# Altium integrated library Altium Database Library V2.IntLib: 722 symbols (part 27 of 35)

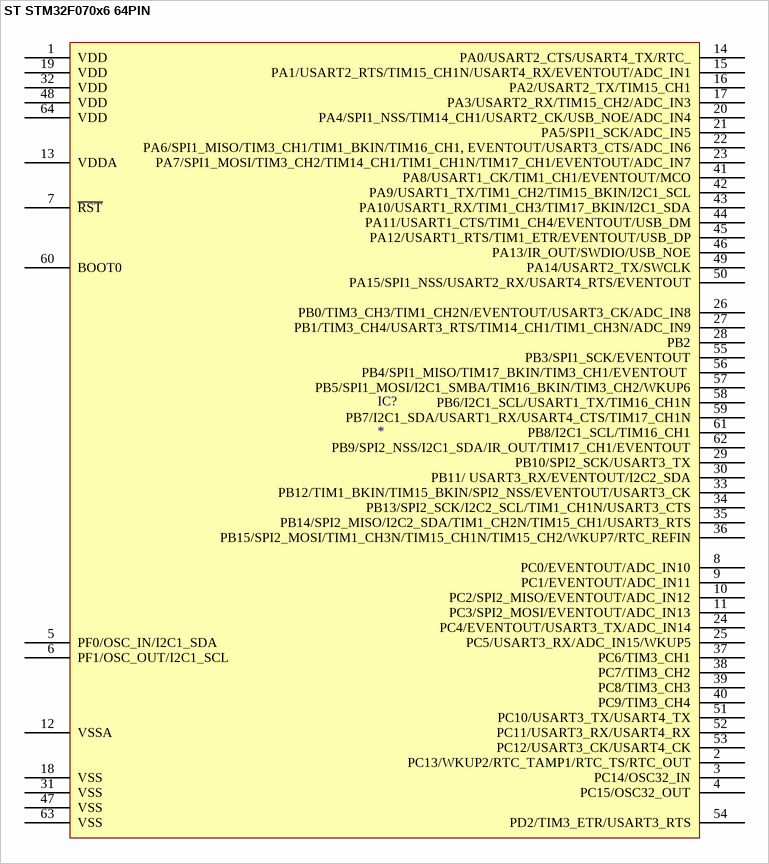
[diagram p526: symbol ST STM32F070x6 64PIN]

## ST STM32F070x6 64PIN
designator IC?
pins: 1 VDD, 2 PC13/WKUP2/RTC_TAMP1/RTC_TS/RTC_OUT, 3 PC14/OSC32_IN, 4 PC15/OSC32_OUT, 5 PF0/OSC_IN/I2C1_SDA, 6 PF1/OSC_OUT/I2C1_SCL, 7 ~{RST}, 8 PC0/EVENTOUT/ADC_IN10, 9 PC1/EVENTOUT/ADC_IN11, 10 PC2/SPI2_MISO/EVENTOUT/ADC_IN12, 11 PC3/SPI2_MOSI/EVENTOUT/ADC_IN13, 12 VSSA, 13 VDDA, 14 PA0/USART2_CTS/USART4_TX/RTC_, 15 PA1/USART2_RTS/TIM15_CH1N/USART4_RX/EVENTOUT/ADC_IN1, 16 PA2/USART2_TX/TIM15_CH1, 17 PA3/USART2_RX/TIM15_CH2/ADC_IN3, 18 VSS, 19 VDD, 20 PA4/SPI1_NSS/TIM14_CH1/USART2_CK/USB_NOE/ADC_IN4, 21 PA5/SPI1_SCK/ADC_IN5, 22 PA6/SPI1_MISO/TIM3_CH1/TIM1_BKIN/TIM16_CH1, EVENTOUT/USART3_CTS/ADC_IN6, 23 PA7/SPI1_MOSI/TIM3_CH2/TIM14_CH1/TIM1_CH1N/TIM17_CH1/EVENTOUT/ADC_IN7, 24 PC4/EVENTOUT/USART3_TX/ADC_IN14, 25 PC5/USART3_RX/ADC_IN15/WKUP5, 26 PB0/TIM3_CH3/TIM1_CH2N/EVENTOUT/USART3_CK/ADC_IN8, 27 PB1/TIM3_CH4/USART3_RTS/TIM14_CH1/TIM1_CH3N/ADC_IN9, 28 PB2, 29 PB10/SPI2_SCK/USART3_TX, 30 PB11/ USART3_RX/EVENTOUT/I2C2_SDA, 31 VSS, 32 VDD, 33 PB12/TIM1_BKIN/TIM15_BKIN/SPI2_NSS/EVENTOUT/USART3_CK, 34 PB13/SPI2_SCK/I2C2_SCL/TIM1_CH1N/USART3_CTS, 35 PB14/SPI2_MISO/I2C2_SDA/TIM1_CH2N/TIM15_CH1/USART3_RTS, 36 PB15/SPI2_MOSI/TIM1_CH3N/TIM15_CH1N/TIM15_CH2/WKUP7/RTC_REFIN, 37 PC6/TIM3_CH1, 38 PC7/TIM3_CH2, 39 PC8/TIM3_CH3, 40 PC9/TIM3_CH4, 41 PA8/USART1_CK/TIM1_CH1/EVENTOUT/MCO, 42 PA9/USART1_TX/TIM1_CH2/TIM15_BKIN/I2C1_SCL, 43 PA10/USART1_RX/TIM1_CH3/TIM17_BKIN/I2C1_SDA, 44 PA11/USART1_CTS/TIM1_CH4/EVENTOUT/USB_DM, 45 PA12/USART1_RTS/TIM1_ETR/EVENTOUT/USB_DP, 46 PA13/IR_OUT/SWDIO/USB_NOE, 47 VSS, 48 VDD, 49 PA14/USART2_TX/SWCLK, 50 PA15/SPI1_NSS/USART2_RX/USART4_RTS/EVENTOUT, 51 PC10/USART3_TX/USART4_TX, 52 PC11/USART3_RX/USART4_RX, 53 PC12/USART3_CK/USART4_CK, 54 PD2/TIM3_ETR/USART3_RTS, 55 PB3/SPI1_SCK/EVENTOUT, 56 PB4/SPI1_MISO/TIM17_BKIN/TIM3_CH1/EVENTOUT , 57 PB5/SPI1_MOSI/I2C1_SMBA/TIM16_BKIN/TIM3_CH2/WKUP6, 58 PB6/I2C1_SCL/USART1_TX/TIM16_CH1N, 59 PB7/I2C1_SDA/USART1_RX/USART4_CTS/TIM17_CH1N, 60 BOOT0, 61 PB8/I2C1_SCL/TIM16_CH1, 62 PB9/SPI2_NSS/I2C1_SDA/IR_OUT/TIM17_CH1/EVENTOUT, 63 VSS, 64 VDD


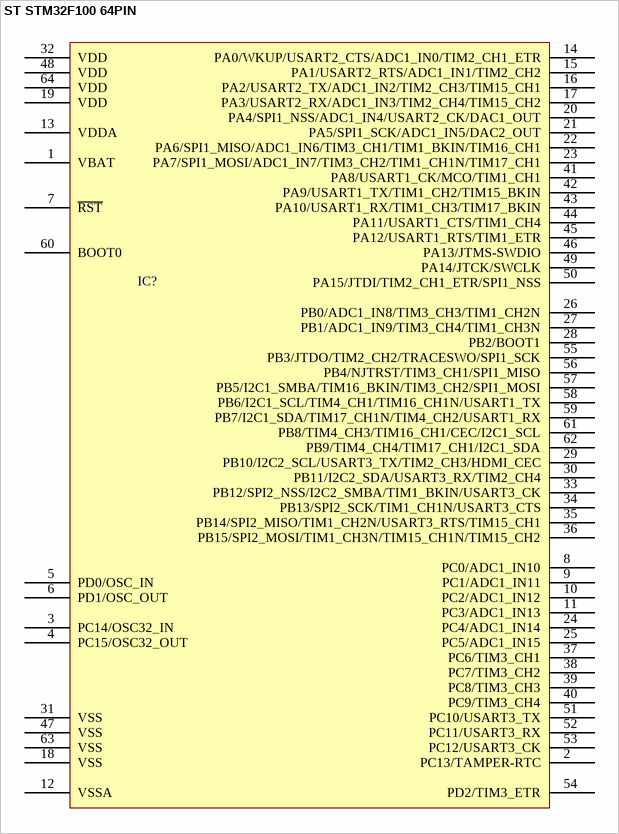
[diagram p527: symbol ST STM32F100 64PIN]

## ST STM32F100 64PIN
designator IC?
pins: 1 VBAT, 2 PC13/TAMPER-RTC, 3 PC14/OSC32_IN "PC14-OSC32_IN/PC14/OSC32_IN", 4 PC15/OSC32_OUT "PC15-OSC32_OUT/PC15/OSC32_OUT", 5 PD0/OSC_IN, 6 PD1/OSC_OUT, 7 ~{RST} "NRST", 8 PC0/ADC1_IN10, 9 PC1/ADC1_IN11, 10 PC2/ADC1_IN12, 11 PC3/ADC1_IN13, 12 VSSA, 13 VDDA, 14 PA0/WKUP/USART2_CTS/ADC1_IN0/TIM2_CH1_ETR, 15 PA1/USART2_RTS/ADC1_IN1/TIM2_CH2, 16 PA2/USART2_TX/ADC1_IN2/TIM2_CH3/TIM15_CH1, 17 PA3/USART2_RX/ADC1_IN3/TIM2_CH4/TIM15_CH2, 18 VSS, 19 VDD, 20 PA4/SPI1_NSS/ADC1_IN4/USART2_CK/DAC1_OUT, 21 PA5/SPI1_SCK/ADC1_IN5/DAC2_OUT, 22 PA6/SPI1_MISO/ADC1_IN6/TIM3_CH1/TIM1_BKIN/TIM16_CH1, 23 PA7/SPI1_MOSI/ADC1_IN7/TIM3_CH2/TIM1_CH1N/TIM17_CH1, 24 PC4/ADC1_IN14, 25 PC5/ADC1_IN15, 26 PB0/ADC1_IN8/TIM3_CH3/TIM1_CH2N, 27 PB1/ADC1_IN9/TIM3_CH4/TIM1_CH3N, 28 PB2/BOOT1, 29 PB10/I2C2_SCL/USART3_TX/TIM2_CH3/HDMI_CEC, 30 PB11/I2C2_SDA/USART3_RX/TIM2_CH4, 31 VSS, 32 VDD, 33 PB12/SPI2_NSS/I2C2_SMBA/TIM1_BKIN/USART3_CK, 34 PB13/SPI2_SCK/TIM1_CH1N/USART3_CTS, 35 PB14/SPI2_MISO/TIM1_CH2N/USART3_RTS/TIM15_CH1, 36 PB15/SPI2_MOSI/TIM1_CH3N/TIM15_CH1N/TIM15_CH2, 37 PC6/TIM3_CH1, 38 PC7/TIM3_CH2, 39 PC8/TIM3_CH3, 40 PC9/TIM3_CH4, 41 PA8/USART1_CK/MCO/TIM1_CH1, 42 PA9/USART1_TX/TIM1_CH2/TIM15_BKIN, 43 PA10/USART1_RX/TIM1_CH3/TIM17_BKIN, 44 PA11/USART1_CTS/TIM1_CH4, 45 PA12/USART1_RTS/TIM1_ETR, 46 PA13/JTMS-SWDIO, 47 VSS, 48 VDD, 49 PA14/JTCK/SWCLK, 50 PA15/JTDI/TIM2_CH1_ETR/SPI1_NSS, 51 PC10/USART3_TX, 52 PC11/USART3_RX, 53 PC12/USART3_CK, 54 PD2/TIM3_ETR, 55 PB3/JTDO/TIM2_CH2/TRACESWO/SPI1_SCK, 56 PB4/NJTRST/TIM3_CH1/SPI1_MISO, 57 PB5/I2C1_SMBA/TIM16_BKIN/TIM3_CH2/SPI1_MOSI, 58 PB6/I2C1_SCL/TIM4_CH1/TIM16_CH1N/USART1_TX, 59 PB7/I2C1_SDA/TIM17_CH1N/TIM4_CH2/USART1_RX, 60 BOOT0, 61 PB8/TIM4_CH3/TIM16_CH1/CEC/I2C1_SCL, 62 PB9/TIM4_CH4/TIM17_CH1/I2C1_SDA, 63 VSS, 64 VDD


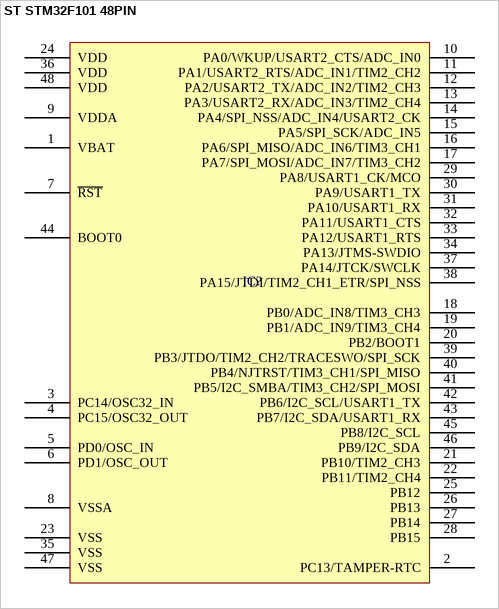
[diagram p528: symbol ST STM32F101 48PIN]

## ST STM32F101 48PIN
designator IC?
pins: 1 VBAT, 2 PC13/TAMPER-RTC, 3 PC14/OSC32_IN "PC14-OSC32_IN/PC14/OSC32_IN", 4 PC15/OSC32_OUT "PC15-OSC32_OUT/PC15/OSC32_OUT", 5 PD0/OSC_IN, 6 PD1/OSC_OUT, 7 ~{RST} "NRST", 8 VSSA, 9 VDDA, 10 PA0/WKUP/USART2_CTS/ADC_IN0, 11 PA1/USART2_RTS/ADC_IN1/TIM2_CH2, 12 PA2/USART2_TX/ADC_IN2/TIM2_CH3, 13 PA3/USART2_RX/ADC_IN3/TIM2_CH4, 14 PA4/SPI_NSS/ADC_IN4/USART2_CK, 15 PA5/SPI_SCK/ADC_IN5, 16 PA6/SPI_MISO/ADC_IN6/TIM3_CH1, 17 PA7/SPI_MOSI/ADC_IN7/TIM3_CH2, 18 PB0/ADC_IN8/TIM3_CH3, 19 PB1/ADC_IN9/TIM3_CH4, 20 PB2/BOOT1, 21 PB10/TIM2_CH3, 22 PB11/TIM2_CH4, 23 VSS, 24 VDD, 25 PB12, 26 PB13, 27 PB14, 28 PB15, 29 PA8/USART1_CK/MCO, 30 PA9/USART1_TX, 31 PA10/USART1_RX, 32 PA11/USART1_CTS, 33 PA12/USART1_RTS, 34 PA13/JTMS-SWDIO, 35 VSS, 36 VDD, 37 PA14/JTCK/SWCLK, 38 PA15/JTDI/TIM2_CH1_ETR/SPI_NSS, 39 PB3/JTDO/TIM2_CH2/TRACESWO/SPI_SCK, 40 PB4/NJTRST/TIM3_CH1/SPI_MISO, 41 PB5/I2C_SMBA/TIM3_CH2/SPI_MOSI, 42 PB6/I2C_SCL/USART1_TX, 43 PB7/I2C_SDA/USART1_RX, 44 BOOT0, 45 PB8/I2C_SCL, 46 PB9/I2C_SDA, 47 VSS, 48 VDD


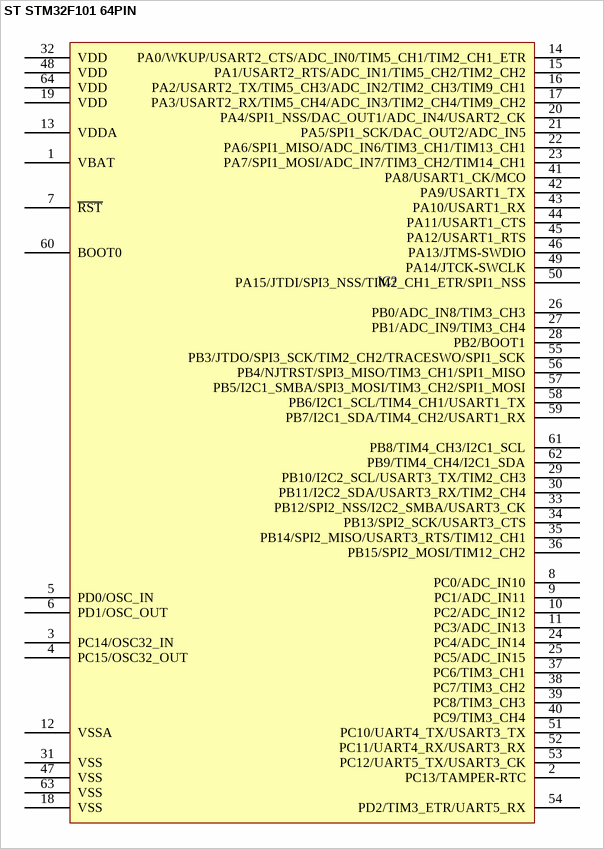
[diagram p529: symbol ST STM32F101 64PIN]

## ST STM32F101 64PIN
designator IC?
pins: 1 VBAT, 2 PC13/TAMPER-RTC, 3 PC14/OSC32_IN "PC14-OSC32_IN/PC14/OSC32_IN", 4 PC15/OSC32_OUT "PC15-OSC32_OUT/PC15/OSC32_OUT", 5 PD0/OSC_IN, 6 PD1/OSC_OUT, 7 ~{RST} "NRST", 8 PC0/ADC_IN10, 9 PC1/ADC_IN11, 10 PC2/ADC_IN12, 11 PC3/ADC_IN13, 12 VSSA, 13 VDDA, 14 PA0/WKUP/USART2_CTS/ADC_IN0/TIM5_CH1/TIM2_CH1_ETR, 15 PA1/USART2_RTS/ADC_IN1/TIM5_CH2/TIM2_CH2, 16 PA2/USART2_TX/TIM5_CH3/ADC_IN2/TIM2_CH3/TIM9_CH1, 17 PA3/USART2_RX/TIM5_CH4/ADC_IN3/TIM2_CH4/TIM9_CH2, 18 VSS, 19 VDD, 20 PA4/SPI1_NSS/DAC_OUT1/ADC_IN4/USART2_CK, 21 PA5/SPI1_SCK/DAC_OUT2/ADC_IN5, 22 PA6/SPI1_MISO/ADC_IN6/TIM3_CH1/TIM13_CH1, 23 PA7/SPI1_MOSI/ADC_IN7/TIM3_CH2/TIM14_CH1, 24 PC4/ADC_IN14, 25 PC5/ADC_IN15, 26 PB0/ADC_IN8/TIM3_CH3, 27 PB1/ADC_IN9/TIM3_CH4, 28 PB2/BOOT1, 29 PB10/I2C2_SCL/USART3_TX/TIM2_CH3, 30 PB11/I2C2_SDA/USART3_RX/TIM2_CH4, 31 VSS, 32 VDD, 33 PB12/SPI2_NSS/I2C2_SMBA/USART3_CK, 34 PB13/SPI2_SCK/USART3_CTS, 35 PB14/SPI2_MISO/USART3_RTS/TIM12_CH1, 36 PB15/SPI2_MOSI/TIM12_CH2, 37 PC6/TIM3_CH1, 38 PC7/TIM3_CH2, 39 PC8/TIM3_CH3, 40 PC9/TIM3_CH4, 41 PA8/USART1_CK/MCO, 42 PA9/USART1_TX, 43 PA10/USART1_RX, 44 PA11/USART1_CTS, 45 PA12/USART1_RTS, 46 PA13/JTMS-SWDIO, 47 VSS, 48 VDD, 49 PA14/JTCK-SWCLK, 50 PA15/JTDI/SPI3_NSS/TIM2_CH1_ETR/SPI1_NSS, 51 PC10/UART4_TX/USART3_TX, 52 PC11/UART4_RX/USART3_RX, 53 PC12/UART5_TX/USART3_CK, 54 PD2/TIM3_ETR/UART5_RX, 55 PB3/JTDO/SPI3_SCK/TIM2_CH2/TRACESWO/SPI1_SCK, 56 PB4/NJTRST/SPI3_MISO/TIM3_CH1/SPI1_MISO, 57 PB5/I2C1_SMBA/SPI3_MOSI/TIM3_CH2/SPI1_MOSI, 58 PB6/I2C1_SCL/TIM4_CH1/USART1_TX, 59 PB7/I2C1_SDA/TIM4_CH2/USART1_RX, 60 BOOT0, 61 PB8/TIM4_CH3/I2C1_SCL, 62 PB9/TIM4_CH4/I2C1_SDA, 63 VSS, 64 VDD


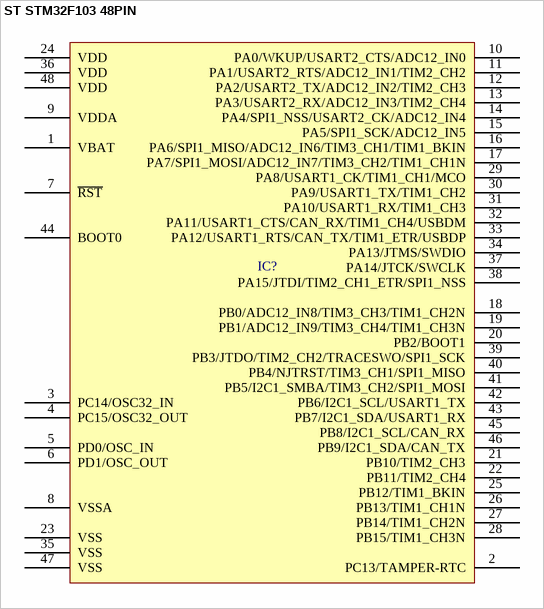
[diagram p530: symbol ST STM32F103 48PIN]

## ST STM32F103 48PIN
designator IC?
pins: 1 VBAT, 2 PC13/TAMPER-RTC, 3 PC14/OSC32_IN, 4 PC15/OSC32_OUT, 5 PD0/OSC_IN, 6 PD1/OSC_OUT, 7 ~{RST} "NRST", 8 VSSA, 9 VDDA, 10 PA0/WKUP/USART2_CTS/ADC12_IN0, 11 PA1/USART2_RTS/ADC12_IN1/TIM2_CH2, 12 PA2/USART2_TX/ADC12_IN2/TIM2_CH3, 13 PA3/USART2_RX/ADC12_IN3/TIM2_CH4, 14 PA4/SPI1_NSS/USART2_CK/ADC12_IN4, 15 PA5/SPI1_SCK/ADC12_IN5, 16 PA6/SPI1_MISO/ADC12_IN6/TIM3_CH1/TIM1_BKIN, 17 PA7/SPI1_MOSI/ADC12_IN7/TIM3_CH2/TIM1_CH1N, 18 PB0/ADC12_IN8/TIM3_CH3/TIM1_CH2N, 19 PB1/ADC12_IN9/TIM3_CH4/TIM1_CH3N, 20 PB2/BOOT1, 21 PB10/TIM2_CH3, 22 PB11/TIM2_CH4, 23 VSS, 24 VDD, 25 PB12/TIM1_BKIN, 26 PB13/TIM1_CH1N, 27 PB14/TIM1_CH2N, 28 PB15/TIM1_CH3N, 29 PA8/USART1_CK/TIM1_CH1/MCO, 30 PA9/USART1_TX/TIM1_CH2, 31 PA10/USART1_RX/TIM1_CH3, 32 PA11/USART1_CTS/CAN_RX/TIM1_CH4/USBDM, 33 PA12/USART1_RTS/CAN_TX/TIM1_ETR/USBDP, 34 PA13/JTMS/SWDIO, 35 VSS, 36 VDD, 37 PA14/JTCK/SWCLK, 38 PA15/JTDI/TIM2_CH1_ETR/SPI1_NSS, 39 PB3/JTDO/TIM2_CH2/TRACESWO/SPI1_SCK, 40 PB4/NJTRST/TIM3_CH1/SPI1_MISO, 41 PB5/I2C1_SMBA/TIM3_CH2/SPI1_MOSI, 42 PB6/I2C1_SCL/USART1_TX, 43 PB7/I2C1_SDA/USART1_RX, 44 BOOT0, 45 PB8/I2C1_SCL/CAN_RX, 46 PB9/I2C1_SDA/CAN_TX, 47 VSS, 48 VDD


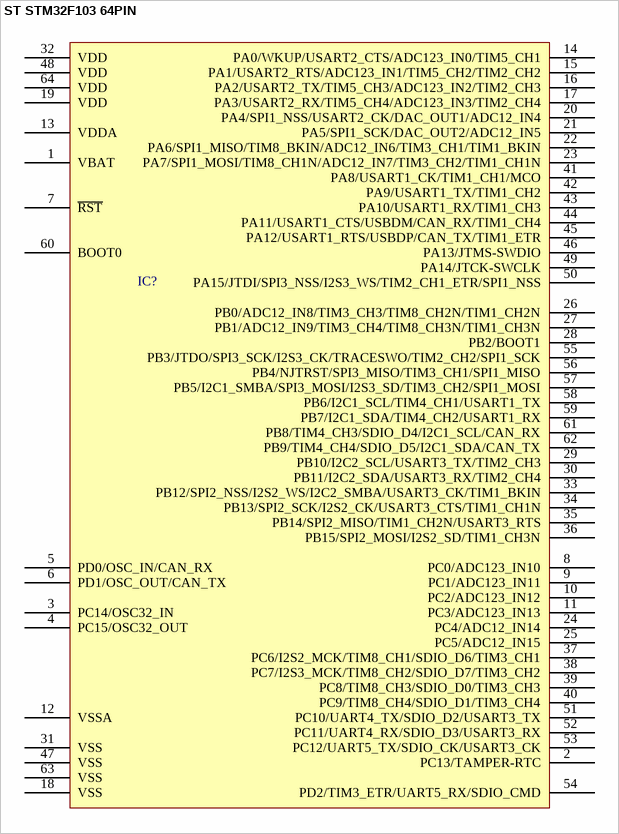
[diagram p531: symbol ST STM32F103 64PIN]

## ST STM32F103 64PIN
designator IC?
pins: 1 VBAT, 2 PC13/TAMPER-RTC, 3 PC14/OSC32_IN, 4 PC15/OSC32_OUT, 5 PD0/OSC_IN/CAN_RX, 6 PD1/OSC_OUT/CAN_TX, 7 ~{RST} "NRST", 8 PC0/ADC123_IN10, 9 PC1/ADC123_IN11, 10 PC2/ADC123_IN12, 11 PC3/ADC123_IN13, 12 VSSA, 13 VDDA, 14 PA0/WKUP/USART2_CTS/ADC123_IN0/TIM5_CH1, 15 PA1/USART2_RTS/ADC123_IN1/TIM5_CH2/TIM2_CH2, 16 PA2/USART2_TX/TIM5_CH3/ADC123_IN2/TIM2_CH3, 17 PA3/USART2_RX/TIM5_CH4/ADC123_IN3/TIM2_CH4, 18 VSS, 19 VDD, 20 PA4/SPI1_NSS/USART2_CK/DAC_OUT1/ADC12_IN4, 21 PA5/SPI1_SCK/DAC_OUT2/ADC12_IN5, 22 PA6/SPI1_MISO/TIM8_BKIN/ADC12_IN6/TIM3_CH1/TIM1_BKIN, 23 PA7/SPI1_MOSI/TIM8_CH1N/ADC12_IN7/TIM3_CH2/TIM1_CH1N, 24 PC4/ADC12_IN14, 25 PC5/ADC12_IN15, 26 PB0/ADC12_IN8/TIM3_CH3/TIM8_CH2N/TIM1_CH2N, 27 PB1/ADC12_IN9/TIM3_CH4/TIM8_CH3N/TIM1_CH3N, 28 PB2/BOOT1, 29 PB10/I2C2_SCL/USART3_TX/TIM2_CH3, 30 PB11/I2C2_SDA/USART3_RX/TIM2_CH4, 31 VSS, 32 VDD, 33 PB12/SPI2_NSS/I2S2_WS/I2C2_SMBA/USART3_CK/TIM1_BKIN, 34 PB13/SPI2_SCK/I2S2_CK/USART3_CTS/TIM1_CH1N, 35 PB14/SPI2_MISO/TIM1_CH2N/USART3_RTS, 36 PB15/SPI2_MOSI/I2S2_SD/TIM1_CH3N, 37 PC6/I2S2_MCK/TIM8_CH1/SDIO_D6/TIM3_CH1, 38 PC7/I2S3_MCK/TIM8_CH2/SDIO_D7/TIM3_CH2, 39 PC8/TIM8_CH3/SDIO_D0/TIM3_CH3, 40 PC9/TIM8_CH4/SDIO_D1/TIM3_CH4, 41 PA8/USART1_CK/TIM1_CH1/MCO, 42 PA9/USART1_TX/TIM1_CH2, 43 PA10/USART1_RX/TIM1_CH3, 44 PA11/USART1_CTS/USBDM/CAN_RX/TIM1_CH4, 45 PA12/USART1_RTS/USBDP/CAN_TX/TIM1_ETR, 46 PA13/JTMS-SWDIO, 47 VSS, 48 VDD, 49 PA14/JTCK-SWCLK, 50 PA15/JTDI/SPI3_NSS/I2S3_WS/TIM2_CH1_ETR/SPI1_NSS, 51 PC10/UART4_TX/SDIO_D2/USART3_TX, 52 PC11/UART4_RX/SDIO_D3/USART3_RX, 53 PC12/UART5_TX/SDIO_CK/USART3_CK, 54 PD2/TIM3_ETR/UART5_RX/SDIO_CMD, 55 PB3/JTDO/SPI3_SCK/I2S3_CK/TRACESWO/TIM2_CH2/SPI1_SCK, 56 PB4/NJTRST/SPI3_MISO/TIM3_CH1/SPI1_MISO, 57 PB5/I2C1_SMBA/SPI3_MOSI/I2S3_SD/TIM3_CH2/SPI1_MOSI, 58 PB6/I2C1_SCL/TIM4_CH1/USART1_TX, 59 PB7/I2C1_SDA/TIM4_CH2/USART1_RX, 60 BOOT0, 61 PB8/TIM4_CH3/SDIO_D4/I2C1_SCL/CAN_RX, 62 PB9/TIM4_CH4/SDIO_D5/I2C1_SDA/CAN_TX, 63 VSS, 64 VDD


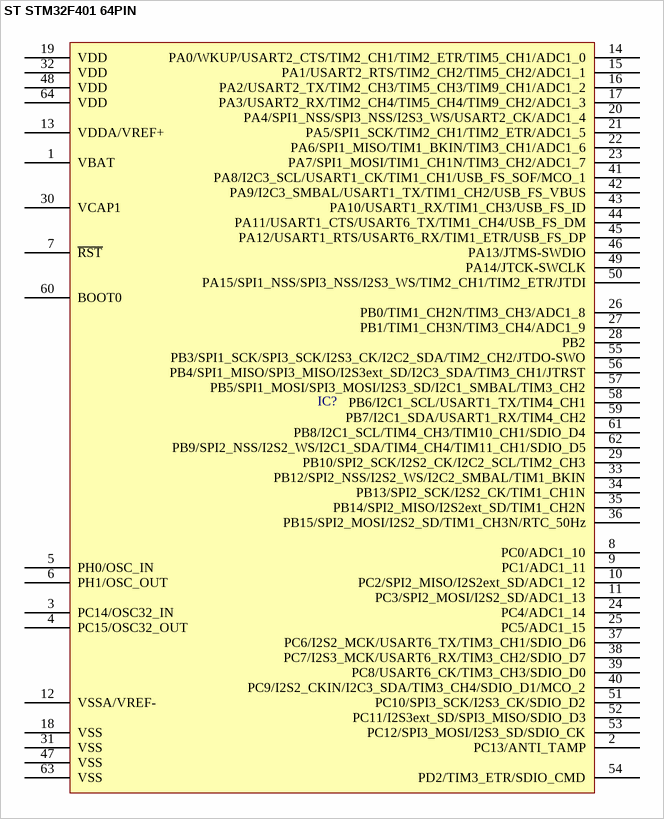
[diagram p532: symbol ST STM32F401 64PIN]

## ST STM32F401 64PIN
designator IC?
pins: 1 VBAT, 2 PC13/ANTI_TAMP, 3 PC14/OSC32_IN "PC14-OSC32_IN/OSC32_IN", 4 PC15/OSC32_OUT "PC15-OSC32_OUT/OSC32_OUT", 5 PH0/OSC_IN "PH0-OSC_IN/OSC_IN", 6 PH1/OSC_OUT "PH1-OSC_OUT/OSC_OUT", 7 ~{RST} "NRST", 8 PC0/ADC1_10, 9 PC1/ADC1_11, 10 PC2/SPI2_MISO/I2S2ext_SD/ADC1_12, 11 PC3/SPI2_MOSI/I2S2_SD/ADC1_13, 12 VSSA/VREF-, 13 VDDA/VREF+, 14 PA0/WKUP/USART2_CTS/TIM2_CH1/TIM2_ETR/TIM5_CH1/ADC1_0, 15 PA1/USART2_RTS/TIM2_CH2/TIM5_CH2/ADC1_1, 16 PA2/USART2_TX/TIM2_CH3/TIM5_CH3/TIM9_CH1/ADC1_2, 17 PA3/USART2_RX/TIM2_CH4/TIM5_CH4/TIM9_CH2/ADC1_3, 18 VSS, 19 VDD, 20 PA4/SPI1_NSS/SPI3_NSS/I2S3_WS/USART2_CK/ADC1_4, 21 PA5/SPI1_SCK/TIM2_CH1/TIM2_ETR/ADC1_5, 22 PA6/SPI1_MISO/TIM1_BKIN/TIM3_CH1/ADC1_6, 23 PA7/SPI1_MOSI/TIM1_CH1N/TIM3_CH2/ADC1_7, 24 PC4/ADC1_14, 25 PC5/ADC1_15, 26 PB0/TIM1_CH2N/TIM3_CH3/ADC1_8, 27 PB1/TIM1_CH3N/TIM3_CH4/ADC1_9, 28 PB2, 29 PB10/SPI2_SCK/I2S2_CK/I2C2_SCL/TIM2_CH3, 30 VCAP1, 31 VSS, 32 VDD, 33 PB12/SPI2_NSS/I2S2_WS/I2C2_SMBAL/TIM1_BKIN, 34 PB13/SPI2_SCK/I2S2_CK/TIM1_CH1N, 35 PB14/SPI2_MISO/I2S2ext_SD/TIM1_CH2N, 36 PB15/SPI2_MOSI/I2S2_SD/TIM1_CH3N/RTC_50Hz, 37 PC6/I2S2_MCK/USART6_TX/TIM3_CH1/SDIO_D6, 38 PC7/I2S3_MCK/USART6_RX/TIM3_CH2/SDIO_D7, 39 PC8/USART6_CK/TIM3_CH3/SDIO_D0, 40 PC9/I2S2_CKIN/I2C3_SDA/TIM3_CH4/SDIO_D1/MCO_2, 41 PA8/I2C3_SCL/USART1_CK/TIM1_CH1/USB_FS_SOF/MCO_1, 42 PA9/I2C3_SMBAL/USART1_TX/TIM1_CH2/USB_FS_VBUS, 43 PA10/USART1_RX/TIM1_CH3/USB_FS_ID, 44 PA11/USART1_CTS/USART6_TX/TIM1_CH4/USB_FS_DM, 45 PA12/USART1_RTS/USART6_RX/TIM1_ETR/USB_FS_DP, 46 PA13/JTMS-SWDIO, 47 VSS, 48 VDD, 49 PA14/JTCK-SWCLK, 50 PA15/SPI1_NSS/SPI3_NSS/I2S3_WS/TIM2_CH1/TIM2_ETR/JTDI, 51 PC10/SPI3_SCK/I2S3_CK/SDIO_D2, 52 PC11/I2S3ext_SD/SPI3_MISO/SDIO_D3, 53 PC12/SPI3_MOSI/I2S3_SD/SDIO_CK, 54 PD2/TIM3_ETR/SDIO_CMD, 55 PB3/SPI1_SCK/SPI3_SCK/I2S3_CK/I2C2_SDA/TIM2_CH2/JTDO-SWO, 56 PB4/SPI1_MISO/SPI3_MISO/I2S3ext_SD/I2C3_SDA/TIM3_CH1/JTRST, 57 PB5/SPI1_MOSI/SPI3_MOSI/I2S3_SD/I2C1_SMBAL/TIM3_CH2, 58 PB6/I2C1_SCL/USART1_TX/TIM4_CH1, 59 PB7/I2C1_SDA/USART1_RX/TIM4_CH2, 60 BOOT0, 61 PB8/I2C1_SCL/TIM4_CH3/TIM10_CH1/SDIO_D4, 62 PB9/SPI2_NSS/I2S2_WS/I2C1_SDA/TIM4_CH4/TIM11_CH1/SDIO_D5, 63 VSS, 64 VDD


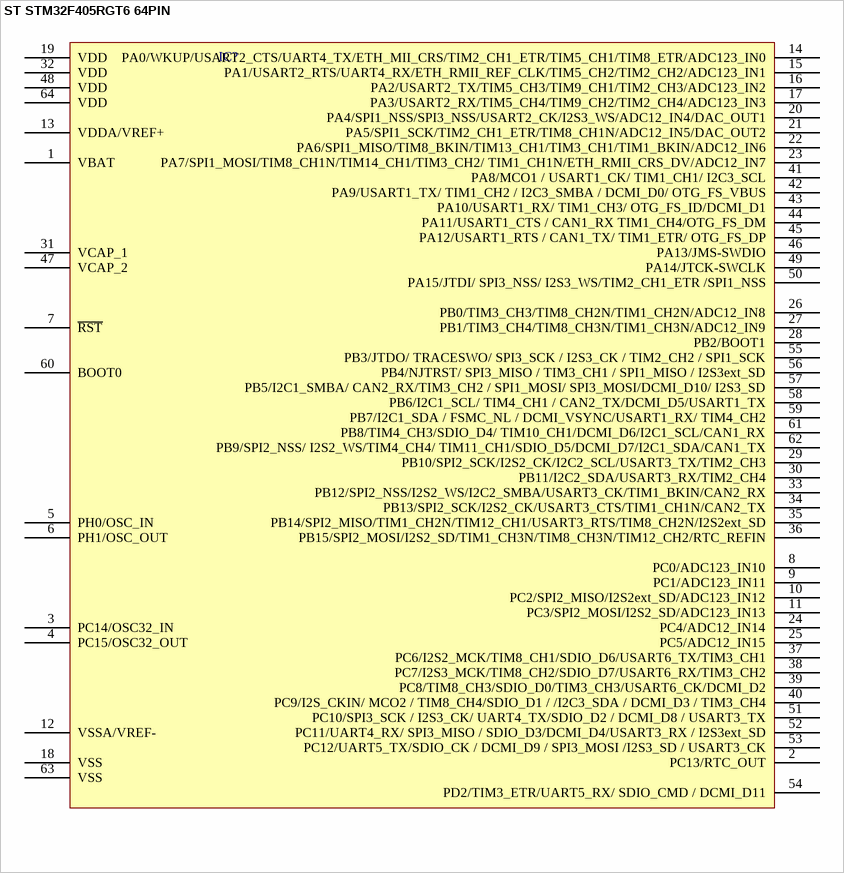
[diagram p533: symbol ST STM32F405RGT6 64PIN]

## ST STM32F405RGT6 64PIN
designator IC?
pins: 1 VBAT, 2 PC13/RTC_OUT, 3 PC14/OSC32_IN, 4 PC15/OSC32_OUT, 5 PH0/OSC_IN, 6 PH1/OSC_OUT, 7 ~{RST}, 8 PC0/ADC123_IN10, 9 PC1/ADC123_IN11, 10 PC2/SPI2_MISO/I2S2ext_SD/ADC123_IN12, 11 PC3/SPI2_MOSI/I2S2_SD/ADC123_IN13, 12 VSSA/VREF-, 13 VDDA/VREF+, 14 PA0/WKUP/USART2_CTS/UART4_TX/ETH_MII_CRS/TIM2_CH1_ETR/TIM5_CH1/TIM8_ETR/ADC123_IN0, 15 PA1/USART2_RTS/UART4_RX/ETH_RMII_REF_CLK/TIM5_CH2/TIM2_CH2/ADC123_IN1, 16 PA2/USART2_TX/TIM5_CH3/TIM9_CH1/TIM2_CH3/ADC123_IN2, 17 PA3/USART2_RX/TIM5_CH4/TIM9_CH2/TIM2_CH4/ADC123_IN3, 18 VSS, 19 VDD, 20 PA4/SPI1_NSS/SPI3_NSS/USART2_CK/I2S3_WS/ADC12_IN4/DAC_OUT1, 21 PA5/SPI1_SCK/TIM2_CH1_ETR/TIM8_CH1N/ADC12_IN5/DAC_OUT2, 22 PA6/SPI1_MISO/TIM8_BKIN/TIM13_CH1/TIM3_CH1/TIM1_BKIN/ADC12_IN6, 23 PA7/SPI1_MOSI/TIM8_CH1N/TIM14_CH1/TIM3_CH2/ TIM1_CH1N/ETH_RMII_CRS_DV/ADC12_IN7, 24 PC4/ADC12_IN14, 25 PC5/ADC12_IN15, 26 PB0/TIM3_CH3/TIM8_CH2N/TIM1_CH2N/ADC12_IN8, 27 PB1/TIM3_CH4/TIM8_CH3N/TIM1_CH3N/ADC12_IN9, 28 PB2/BOOT1, 29 PB10/SPI2_SCK/I2S2_CK/I2C2_SCL/USART3_TX/TIM2_CH3, 30 PB11/I2C2_SDA/USART3_RX/TIM2_CH4, 31 VCAP_1, 32 VDD, 33 PB12/SPI2_NSS/I2S2_WS/I2C2_SMBA/USART3_CK/TIM1_BKIN/CAN2_RX, 34 PB13/SPI2_SCK/I2S2_CK/USART3_CTS/TIM1_CH1N/CAN2_TX, 35 PB14/SPI2_MISO/TIM1_CH2N/TIM12_CH1/USART3_RTS/TIM8_CH2N/I2S2ext_SD, 36 PB15/SPI2_MOSI/I2S2_SD/TIM1_CH3N/TIM8_CH3N/TIM12_CH2/RTC_REFIN, 37 PC6/I2S2_MCK/TIM8_CH1/SDIO_D6/USART6_TX/TIM3_CH1, 38 PC7/I2S3_MCK/TIM8_CH2/SDIO_D7/USART6_RX/TIM3_CH2, 39 PC8/TIM8_CH3/SDIO_D0/TIM3_CH3/USART6_CK/DCMI_D2, 40 PC9/I2S_CKIN/ MCO2 / TIM8_CH4/SDIO_D1 / /I2C3_SDA / DCMI_D3 / TIM3_CH4, 41 PA8/MCO1 / USART1_CK/ TIM1_CH1/ I2C3_SCL, 42 PA9/USART1_TX/ TIM1_CH2 / I2C3_SMBA / DCMI_D0/ OTG_FS_VBUS, 43 PA10/USART1_RX/ TIM1_CH3/ OTG_FS_ID/DCMI_D1, 44 PA11/USART1_CTS / CAN1_RX TIM1_CH4/OTG_FS_DM, 45 PA12/USART1_RTS / CAN1_TX/ TIM1_ETR/ OTG_FS_DP, 46 PA13/JMS-SWDIO, 47 VCAP_2, 48 VDD, 49 PA14/JTCK-SWCLK, 50 PA15/JTDI/ SPI3_NSS/ I2S3_WS/TIM2_CH1_ETR /SPI1_NSS, 51 PC10/SPI3_SCK / I2S3_CK/ UART4_TX/SDIO_D2 / DCMI_D8 / USART3_TX, 52 PC11/UART4_RX/ SPI3_MISO / SDIO_D3/DCMI_D4/USART3_RX / I2S3ext_SD, 53 PC12/UART5_TX/SDIO_CK / DCMI_D9 / SPI3_MOSI /I2S3_SD / USART3_CK, 54 PD2/TIM3_ETR/UART5_RX/ SDIO_CMD / DCMI_D11, 55 PB3/JTDO/ TRACESWO/ SPI3_SCK / I2S3_CK / TIM2_CH2 / SPI1_SCK, 56 PB4/NJTRST/ SPI3_MISO / TIM3_CH1 / SPI1_MISO / I2S3ext_SD, 57 PB5/I2C1_SMBA/ CAN2_RX/TIM3_CH2 / SPI1_MOSI/ SPI3_MOSI/DCMI_D10/ I2S3_SD, 58 PB6/I2C1_SCL/ TIM4_CH1 / CAN2_TX/DCMI_D5/USART1_TX, 59 PB7/I2C1_SDA / FSMC_NL / DCMI_VSYNC/USART1_RX/ TIM4_CH2, 60 BOOT0, 61 PB8/TIM4_CH3/SDIO_D4/ TIM10_CH1/DCMI_D6/I2C1_SCL/CAN1_RX, 62 PB9/SPI2_NSS/ I2S2_WS/TIM4_CH4/ TIM11_CH1/SDIO_D5/DCMI_D7/I2C1_SDA/CAN1_TX, 63 VSS, 64 VDD


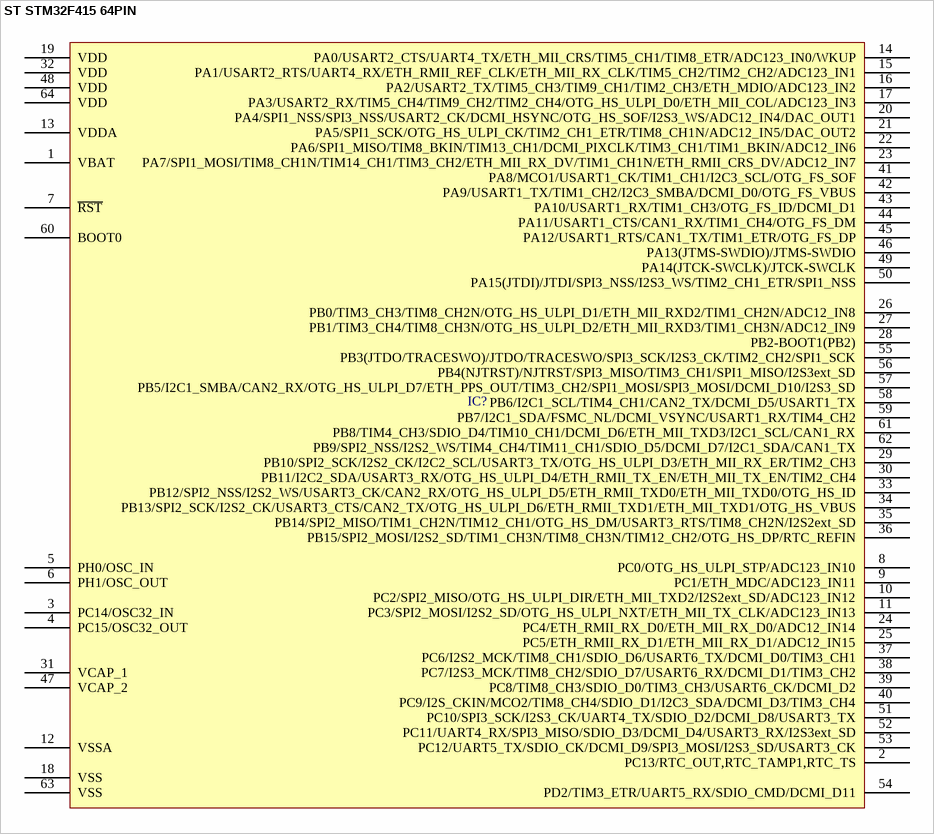
[diagram p534: symbol ST STM32F415 64PIN]

## ST STM32F415 64PIN
designator IC?
pins: 1 VBAT, 2 PC13/RTC_OUT,RTC_TAMP1,RTC_TS, 3 PC14/OSC32_IN "PC14-OSC32_IN(PC14)/EVENTOUT/OSC32_IN", 4 PC15/OSC32_OUT "PC15-OSC32_OUT(PC15)/EVENTOUT/OSC32_OUT", 5 PH0/OSC_IN "PH0-OSC_IN(PH0)/EVENTOUT/OSC_IN", 6 PH1/OSC_OUT "PH1-OSC_OUT(PH1)/EVENTOUT/OSC_OUT", 7 ~{RST} "NRST", 8 PC0/OTG_HS_ULPI_STP/ADC123_IN10, 9 PC1/ETH_MDC/ADC123_IN11, 10 PC2/SPI2_MISO/OTG_HS_ULPI_DIR/ETH_MII_TXD2/I2S2ext_SD/ADC123_IN12, 11 PC3/SPI2_MOSI/I2S2_SD/OTG_HS_ULPI_NXT/ETH_MII_TX_CLK/ADC123_IN13, 12 VSSA, 13 VDDA, 14 PA0/USART2_CTS/UART4_TX/ETH_MII_CRS/TIM5_CH1/TIM8_ETR/ADC123_IN0/WKUP, 15 PA1/USART2_RTS/UART4_RX/ETH_RMII_REF_CLK/ETH_MII_RX_CLK/TIM5_CH2/TIM2_CH2/ADC123_IN1, 16 PA2/USART2_TX/TIM5_CH3/TIM9_CH1/TIM2_CH3/ETH_MDIO/ADC123_IN2, 17 PA3/USART2_RX/TIM5_CH4/TIM9_CH2/TIM2_CH4/OTG_HS_ULPI_D0/ETH_MII_COL/ADC123_IN3, 18 VSS, 19 VDD, 20 PA4/SPI1_NSS/SPI3_NSS/USART2_CK/DCMI_HSYNC/OTG_HS_SOF/I2S3_WS/ADC12_IN4/DAC_OUT1, 21 PA5/SPI1_SCK/OTG_HS_ULPI_CK/TIM2_CH1_ETR/TIM8_CH1N/ADC12_IN5/DAC_OUT2, 22 PA6/SPI1_MISO/TIM8_BKIN/TIM13_CH1/DCMI_PIXCLK/TIM3_CH1/TIM1_BKIN/ADC12_IN6, 23 PA7/SPI1_MOSI/TIM8_CH1N/TIM14_CH1/TIM3_CH2/ETH_MII_RX_DV/TIM1_CH1N/ETH_RMII_CRS_DV/ADC12_IN7, 24 PC4/ETH_RMII_RX_D0/ETH_MII_RX_D0/ADC12_IN14, 25 PC5/ETH_RMII_RX_D1/ETH_MII_RX_D1/ADC12_IN15, 26 PB0/TIM3_CH3/TIM8_CH2N/OTG_HS_ULPI_D1/ETH_MII_RXD2/TIM1_CH2N/ADC12_IN8, 27 PB1/TIM3_CH4/TIM8_CH3N/OTG_HS_ULPI_D2/ETH_MII_RXD3/TIM1_CH3N/ADC12_IN9, 28 PB2-BOOT1(PB2), 29 PB10/SPI2_SCK/I2S2_CK/I2C2_SCL/USART3_TX/OTG_HS_ULPI_D3/ETH_MII_RX_ER/TIM2_CH3, 30 PB11/I2C2_SDA/USART3_RX/OTG_HS_ULPI_D4/ETH_RMII_TX_EN/ETH_MII_TX_EN/TIM2_CH4, 31 VCAP_1, 32 VDD, 33 PB12/SPI2_NSS/I2S2_WS/USART3_CK/CAN2_RX/OTG_HS_ULPI_D5/ETH_RMII_TXD0/ETH_MII_TXD0/OTG_HS_ID "PB12/SPI2_NSS/I2S2_WS/I2C2_SMBA/USART3_CK/CAN2_RX/OTG_HS_ULPI_D5/ETH_RMII_TXD0/ETH_MII_TXD0/OTG_HS_ID", 34 PB13/SPI2_SCK/I2S2_CK/USART3_CTS/CAN2_TX/OTG_HS_ULPI_D6/ETH_RMII_TXD1/ETH_MII_TXD1/OTG_HS_VBUS "PB13/SPI2_SCK/I2S2_CK/USART3_CTS/TIM1_CH1N/CAN2_TX/OTG_HS_ULPI_D6/ETH_RMII_TXD1/ETH_MII_TXD1/OTG_HS_VBUS", 35 PB14/SPI2_MISO/TIM1_CH2N/TIM12_CH1/OTG_HS_DM/USART3_RTS/TIM8_CH2N/I2S2ext_SD, 36 PB15/SPI2_MOSI/I2S2_SD/TIM1_CH3N/TIM8_CH3N/TIM12_CH2/OTG_HS_DP/RTC_REFIN, 37 PC6/I2S2_MCK/TIM8_CH1/SDIO_D6/USART6_TX/DCMI_D0/TIM3_CH1, 38 PC7/I2S3_MCK/TIM8_CH2/SDIO_D7/USART6_RX/DCMI_D1/TIM3_CH2, 39 PC8/TIM8_CH3/SDIO_D0/TIM3_CH3/USART6_CK/DCMI_D2, 40 PC9/I2S_CKIN/MCO2/TIM8_CH4/SDIO_D1/I2C3_SDA/DCMI_D3/TIM3_CH4, 41 PA8/MCO1/USART1_CK/TIM1_CH1/I2C3_SCL/OTG_FS_SOF, 42 PA9/USART1_TX/TIM1_CH2/I2C3_SMBA/DCMI_D0/OTG_FS_VBUS, 43 PA10/USART1_RX/TIM1_CH3/OTG_FS_ID/DCMI_D1, 44 PA11/USART1_CTS/CAN1_RX/TIM1_CH4/OTG_FS_DM, 45 PA12/USART1_RTS/CAN1_TX/TIM1_ETR/OTG_FS_DP, 46 PA13(JTMS-SWDIO)/JTMS-SWDIO, 47 VCAP_2, 48 VDD, 49 PA14(JTCK-SWCLK)/JTCK-SWCLK, 50 PA15(JTDI)/JTDI/SPI3_NSS/I2S3_WS/TIM2_CH1_ETR/SPI1_NSS, 51 PC10/SPI3_SCK/I2S3_CK/UART4_TX/SDIO_D2/DCMI_D8/USART3_TX, 52 PC11/UART4_RX/SPI3_MISO/SDIO_D3/DCMI_D4/USART3_RX/I2S3ext_SD, 53 PC12/UART5_TX/SDIO_CK/DCMI_D9/SPI3_MOSI/I2S3_SD/USART3_CK, 54 PD2/TIM3_ETR/UART5_RX/SDIO_CMD/DCMI_D11, 55 PB3(JTDO/TRACESWO)/JTDO/TRACESWO/SPI3_SCK/I2S3_CK/TIM2_CH2/SPI1_SCK, 56 PB4(NJTRST)/NJTRST/SPI3_MISO/TIM3_CH1/SPI1_MISO/I2S3ext_SD, 57 PB5/I2C1_SMBA/CAN2_RX/OTG_HS_ULPI_D7/ETH_PPS_OUT/TIM3_CH2/SPI1_MOSI/SPI3_MOSI/DCMI_D10/I2S3_SD, 58 PB6/I2C1_SCL/TIM4_CH1/CAN2_TX/DCMI_D5/USART1_TX, 59 PB7/I2C1_SDA/FSMC_NL/DCMI_VSYNC/USART1_RX/TIM4_CH2, 60 BOOT0 "BOOT0/VPP", 61 PB8/TIM4_CH3/SDIO_D4/TIM10_CH1/DCMI_D6/ETH_MII_TXD3/I2C1_SCL/CAN1_RX, 62 PB9/SPI2_NSS/I2S2_WS/TIM4_CH4/TIM11_CH1/SDIO_D5/DCMI_D7/I2C1_SDA/CAN1_TX, 63 VSS, 64 VDD


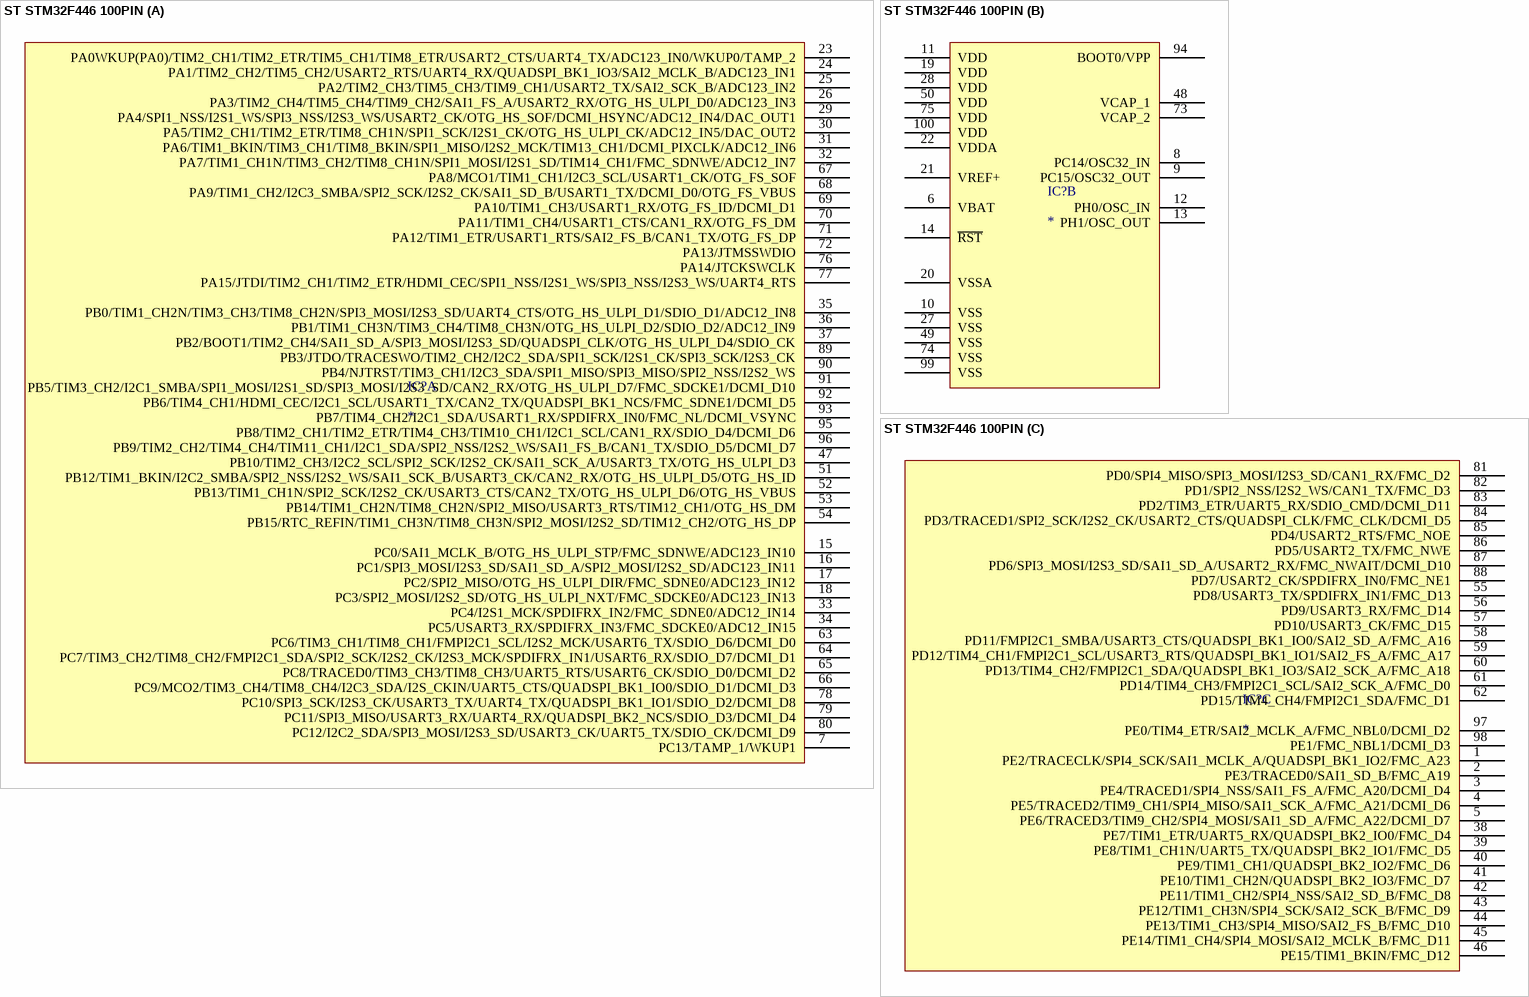
[diagram p535: symbol ST STM32F446 100PIN]

## ST STM32F446 100PIN
designator IC?
part A pins: 7 PC13/TAMP_1/WKUP1, 15 PC0/SAI1_MCLK_B/OTG_HS_ULPI_STP/FMC_SDNWE/ADC123_IN10, 16 PC1/SPI3_MOSI/I2S3_SD/SAI1_SD_A/SPI2_MOSI/I2S2_SD/ADC123_IN11, 17 PC2/SPI2_MISO/OTG_HS_ULPI_DIR/FMC_SDNE0/ADC123_IN12, 18 PC3/SPI2_MOSI/I2S2_SD/OTG_HS_ULPI_NXT/FMC_SDCKE0/ADC123_IN13, 23 PA0WKUP(PA0)/TIM2_CH1/TIM2_ETR/TIM5_CH1/TIM8_ETR/USART2_CTS/UART4_TX/ADC123_IN0/WKUP0/TAMP_2, 24 PA1/TIM2_CH2/TIM5_CH2/USART2_RTS/UART4_RX/QUADSPI_BK1_IO3/SAI2_MCLK_B/ADC123_IN1, 25 PA2/TIM2_CH3/TIM5_CH3/TIM9_CH1/USART2_TX/SAI2_SCK_B/ADC123_IN2, 26 PA3/TIM2_CH4/TIM5_CH4/TIM9_CH2/SAI1_FS_A/USART2_RX/OTG_HS_ULPI_D0/ADC123_IN3, 29 PA4/SPI1_NSS/I2S1_WS/SPI3_NSS/I2S3_WS/USART2_CK/OTG_HS_SOF/DCMI_HSYNC/ADC12_IN4/DAC_OUT1, 30 PA5/TIM2_CH1/TIM2_ETR/TIM8_CH1N/SPI1_SCK/I2S1_CK/OTG_HS_ULPI_CK/ADC12_IN5/DAC_OUT2, 31 PA6/TIM1_BKIN/TIM3_CH1/TIM8_BKIN/SPI1_MISO/I2S2_MCK/TIM13_CH1/DCMI_PIXCLK/ADC12_IN6, 32 PA7/TIM1_CH1N/TIM3_CH2/TIM8_CH1N/SPI1_MOSI/I2S1_SD/TIM14_CH1/FMC_SDNWE/ADC12_IN7, 33 PC4/I2S1_MCK/SPDIFRX_IN2/FMC_SDNE0/ADC12_IN14, 34 PC5/USART3_RX/SPDIFRX_IN3/FMC_SDCKE0/ADC12_IN15, 35 PB0/TIM1_CH2N/TIM3_CH3/TIM8_CH2N/SPI3_MOSI/I2S3_SD/UART4_CTS/OTG_HS_ULPI_D1/SDIO_D1/ADC12_IN8, 36 PB1/TIM1_CH3N/TIM3_CH4/TIM8_CH3N/OTG_HS_ULPI_D2/SDIO_D2/ADC12_IN9, 37 PB2/BOOT1/TIM2_CH4/SAI1_SD_A/SPI3_MOSI/I2S3_SD/QUADSPI_CLK/OTG_HS_ULPI_D4/SDIO_CK, 47 PB10/TIM2_CH3/I2C2_SCL/SPI2_SCK/I2S2_CK/SAI1_SCK_A/USART3_TX/OTG_HS_ULPI_D3, 51 PB12/TIM1_BKIN/I2C2_SMBA/SPI2_NSS/I2S2_WS/SAI1_SCK_B/USART3_CK/CAN2_RX/OTG_HS_ULPI_D5/OTG_HS_ID, 52 PB13/TIM1_CH1N/SPI2_SCK/I2S2_CK/USART3_CTS/CAN2_TX/OTG_HS_ULPI_D6/OTG_HS_VBUS, 53 PB14/TIM1_CH2N/TIM8_CH2N/SPI2_MISO/USART3_RTS/TIM12_CH1/OTG_HS_DM, 54 PB15/RTC_REFIN/TIM1_CH3N/TIM8_CH3N/SPI2_MOSI/I2S2_SD/TIM12_CH2/OTG_HS_DP, 63 PC6/TIM3_CH1/TIM8_CH1/FMPI2C1_SCL/I2S2_MCK/USART6_TX/SDIO_D6/DCMI_D0, 64 PC7/TIM3_CH2/TIM8_CH2/FMPI2C1_SDA/SPI2_SCK/I2S2_CK/I2S3_MCK/SPDIFRX_IN1/USART6_RX/SDIO_D7/DCMI_D1, 65 PC8/TRACED0/TIM3_CH3/TIM8_CH3/UART5_RTS/USART6_CK/SDIO_D0/DCMI_D2, 66 PC9/MCO2/TIM3_CH4/TIM8_CH4/I2C3_SDA/I2S_CKIN/UART5_CTS/QUADSPI_BK1_IO0/SDIO_D1/DCMI_D3, 67 PA8/MCO1/TIM1_CH1/I2C3_SCL/USART1_CK/OTG_FS_SOF, 68 PA9/TIM1_CH2/I2C3_SMBA/SPI2_SCK/I2S2_CK/SAI1_SD_B/USART1_TX/DCMI_D0/OTG_FS_VBUS, 69 PA10/TIM1_CH3/USART1_RX/OTG_FS_ID/DCMI_D1, 70 PA11/TIM1_CH4/USART1_CTS/CAN1_RX/OTG_FS_DM, 71 PA12/TIM1_ETR/USART1_RTS/SAI2_FS_B/CAN1_TX/OTG_FS_DP, 72 PA13/JTMSSWDIO, 76 PA14/JTCKSWCLK, 77 PA15/JTDI/TIM2_CH1/TIM2_ETR/HDMI_CEC/SPI1_NSS/I2S1_WS/SPI3_NSS/I2S3_WS/UART4_RTS, 78 PC10/SPI3_SCK/I2S3_CK/USART3_TX/UART4_TX/QUADSPI_BK1_IO1/SDIO_D2/DCMI_D8, 79 PC11/SPI3_MISO/USART3_RX/UART4_RX/QUADSPI_BK2_NCS/SDIO_D3/DCMI_D4, 80 PC12/I2C2_SDA/SPI3_MOSI/I2S3_SD/USART3_CK/UART5_TX/SDIO_CK/DCMI_D9, 89 PB3/JTDO/TRACESWO/TIM2_CH2/I2C2_SDA/SPI1_SCK/I2S1_CK/SPI3_SCK/I2S3_CK, 90 PB4/NJTRST/TIM3_CH1/I2C3_SDA/SPI1_MISO/SPI3_MISO/SPI2_NSS/I2S2_WS, 91 PB5/TIM3_CH2/I2C1_SMBA/SPI1_MOSI/I2S1_SD/SPI3_MOSI/I2S3_SD/CAN2_RX/OTG_HS_ULPI_D7/FMC_SDCKE1/DCMI_D10, 92 PB6/TIM4_CH1/HDMI_CEC/I2C1_SCL/USART1_TX/CAN2_TX/QUADSPI_BK1_NCS/FMC_SDNE1/DCMI_D5, 93 PB7/TIM4_CH2/I2C1_SDA/USART1_RX/SPDIFRX_IN0/FMC_NL/DCMI_VSYNC, 95 PB8/TIM2_CH1/TIM2_ETR/TIM4_CH3/TIM10_CH1/I2C1_SCL/CAN1_RX/SDIO_D4/DCMI_D6, 96 PB9/TIM2_CH2/TIM4_CH4/TIM11_CH1/I2C1_SDA/SPI2_NSS/I2S2_WS/SAI1_FS_B/CAN1_TX/SDIO_D5/DCMI_D7
part B pins: 6 VBAT, 8 PC14/OSC32_IN, 9 PC15/OSC32_OUT, 10 VSS, 11 VDD, 12 PH0/OSC_IN, 13 PH1/OSC_OUT, 14 ~{RST}, 19 VDD, 20 VSSA, 21 VREF+, 22 VDDA, 27 VSS, 28 VDD, 48 VCAP_1, 49 VSS, 50 VDD, 73 VCAP_2, 74 VSS, 75 VDD, 94 BOOT0/VPP, 99 VSS, 100 VDD
part C pins: 1 PE2/TRACECLK/SPI4_SCK/SAI1_MCLK_A/QUADSPI_BK1_IO2/FMC_A23, 2 PE3/TRACED0/SAI1_SD_B/FMC_A19, 3 PE4/TRACED1/SPI4_NSS/SAI1_FS_A/FMC_A20/DCMI_D4, 4 PE5/TRACED2/TIM9_CH1/SPI4_MISO/SAI1_SCK_A/FMC_A21/DCMI_D6, 5 PE6/TRACED3/TIM9_CH2/SPI4_MOSI/SAI1_SD_A/FMC_A22/DCMI_D7, 38 PE7/TIM1_ETR/UART5_RX/QUADSPI_BK2_IO0/FMC_D4, 39 PE8/TIM1_CH1N/UART5_TX/QUADSPI_BK2_IO1/FMC_D5, 40 PE9/TIM1_CH1/QUADSPI_BK2_IO2/FMC_D6, 41 PE10/TIM1_CH2N/QUADSPI_BK2_IO3/FMC_D7, 42 PE11/TIM1_CH2/SPI4_NSS/SAI2_SD_B/FMC_D8, 43 PE12/TIM1_CH3N/SPI4_SCK/SAI2_SCK_B/FMC_D9, 44 PE13/TIM1_CH3/SPI4_MISO/SAI2_FS_B/FMC_D10, 45 PE14/TIM1_CH4/SPI4_MOSI/SAI2_MCLK_B/FMC_D11, 46 PE15/TIM1_BKIN/FMC_D12, 55 PD8/USART3_TX/SPDIFRX_IN1/FMC_D13, 56 PD9/USART3_RX/FMC_D14, 57 PD10/USART3_CK/FMC_D15, 58 PD11/FMPI2C1_SMBA/USART3_CTS/QUADSPI_BK1_IO0/SAI2_SD_A/FMC_A16, 59 PD12/TIM4_CH1/FMPI2C1_SCL/USART3_RTS/QUADSPI_BK1_IO1/SAI2_FS_A/FMC_A17, 60 PD13/TIM4_CH2/FMPI2C1_SDA/QUADSPI_BK1_IO3/SAI2_SCK_A/FMC_A18, 61 PD14/TIM4_CH3/FMPI2C1_SCL/SAI2_SCK_A/FMC_D0, 62 PD15/TIM4_CH4/FMPI2C1_SDA/FMC_D1, 81 PD0/SPI4_MISO/SPI3_MOSI/I2S3_SD/CAN1_RX/FMC_D2, 82 PD1/SPI2_NSS/I2S2_WS/CAN1_TX/FMC_D3, 83 PD2/TIM3_ETR/UART5_RX/SDIO_CMD/DCMI_D11, 84 PD3/TRACED1/SPI2_SCK/I2S2_CK/USART2_CTS/QUADSPI_CLK/FMC_CLK/DCMI_D5, 85 PD4/USART2_RTS/FMC_NOE, 86 PD5/USART2_TX/FMC_NWE, 87 PD6/SPI3_MOSI/I2S3_SD/SAI1_SD_A/USART2_RX/FMC_NWAIT/DCMI_D10, 88 PD7/USART2_CK/SPDIFRX_IN0/FMC_NE1, 97 PE0/TIM4_ETR/SAI2_MCLK_A/FMC_NBL0/DCMI_D2, 98 PE1/FMC_NBL1/DCMI_D3


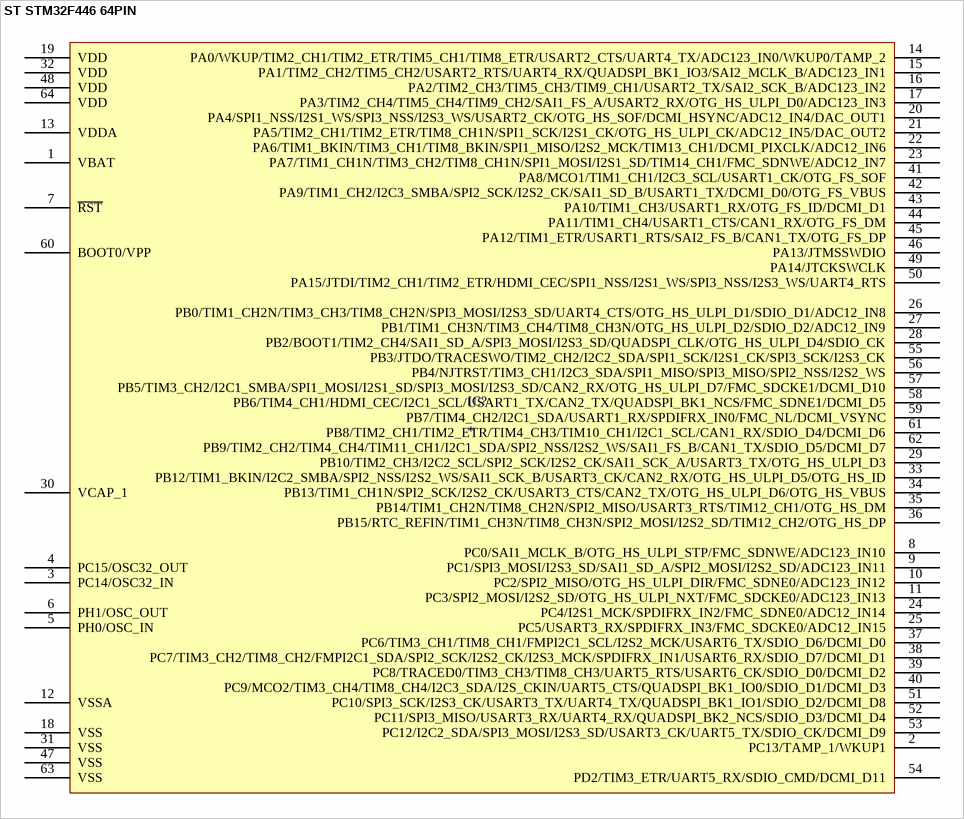
[diagram p536: symbol ST STM32F446 64PIN]

## ST STM32F446 64PIN
designator IC?
pins: 1 VBAT, 2 PC13/TAMP_1/WKUP1, 3 PC14/OSC32_IN, 4 PC15/OSC32_OUT, 5 PH0/OSC_IN, 6 PH1/OSC_OUT, 7 ~{RST}, 8 PC0/SAI1_MCLK_B/OTG_HS_ULPI_STP/FMC_SDNWE/ADC123_IN10, 9 PC1/SPI3_MOSI/I2S3_SD/SAI1_SD_A/SPI2_MOSI/I2S2_SD/ADC123_IN11, 10 PC2/SPI2_MISO/OTG_HS_ULPI_DIR/FMC_SDNE0/ADC123_IN12, 11 PC3/SPI2_MOSI/I2S2_SD/OTG_HS_ULPI_NXT/FMC_SDCKE0/ADC123_IN13, 12 VSSA, 13 VDDA, 14 PA0/WKUP/TIM2_CH1/TIM2_ETR/TIM5_CH1/TIM8_ETR/USART2_CTS/UART4_TX/ADC123_IN0/WKUP0/TAMP_2, 15 PA1/TIM2_CH2/TIM5_CH2/USART2_RTS/UART4_RX/QUADSPI_BK1_IO3/SAI2_MCLK_B/ADC123_IN1, 16 PA2/TIM2_CH3/TIM5_CH3/TIM9_CH1/USART2_TX/SAI2_SCK_B/ADC123_IN2, 17 PA3/TIM2_CH4/TIM5_CH4/TIM9_CH2/SAI1_FS_A/USART2_RX/OTG_HS_ULPI_D0/ADC123_IN3, 18 VSS, 19 VDD, 20 PA4/SPI1_NSS/I2S1_WS/SPI3_NSS/I2S3_WS/USART2_CK/OTG_HS_SOF/DCMI_HSYNC/ADC12_IN4/DAC_OUT1, 21 PA5/TIM2_CH1/TIM2_ETR/TIM8_CH1N/SPI1_SCK/I2S1_CK/OTG_HS_ULPI_CK/ADC12_IN5/DAC_OUT2, 22 PA6/TIM1_BKIN/TIM3_CH1/TIM8_BKIN/SPI1_MISO/I2S2_MCK/TIM13_CH1/DCMI_PIXCLK/ADC12_IN6, 23 PA7/TIM1_CH1N/TIM3_CH2/TIM8_CH1N/SPI1_MOSI/I2S1_SD/TIM14_CH1/FMC_SDNWE/ADC12_IN7, 24 PC4/I2S1_MCK/SPDIFRX_IN2/FMC_SDNE0/ADC12_IN14, 25 PC5/USART3_RX/SPDIFRX_IN3/FMC_SDCKE0/ADC12_IN15, 26 PB0/TIM1_CH2N/TIM3_CH3/TIM8_CH2N/SPI3_MOSI/I2S3_SD/UART4_CTS/OTG_HS_ULPI_D1/SDIO_D1/ADC12_IN8, 27 PB1/TIM1_CH3N/TIM3_CH4/TIM8_CH3N/OTG_HS_ULPI_D2/SDIO_D2/ADC12_IN9, 28 PB2/BOOT1/TIM2_CH4/SAI1_SD_A/SPI3_MOSI/I2S3_SD/QUADSPI_CLK/OTG_HS_ULPI_D4/SDIO_CK, 29 PB10/TIM2_CH3/I2C2_SCL/SPI2_SCK/I2S2_CK/SAI1_SCK_A/USART3_TX/OTG_HS_ULPI_D3, 30 VCAP_1, 31 VSS, 32 VDD, 33 PB12/TIM1_BKIN/I2C2_SMBA/SPI2_NSS/I2S2_WS/SAI1_SCK_B/USART3_CK/CAN2_RX/OTG_HS_ULPI_D5/OTG_HS_ID, 34 PB13/TIM1_CH1N/SPI2_SCK/I2S2_CK/USART3_CTS/CAN2_TX/OTG_HS_ULPI_D6/OTG_HS_VBUS, 35 PB14/TIM1_CH2N/TIM8_CH2N/SPI2_MISO/USART3_RTS/TIM12_CH1/OTG_HS_DM, 36 PB15/RTC_REFIN/TIM1_CH3N/TIM8_CH3N/SPI2_MOSI/I2S2_SD/TIM12_CH2/OTG_HS_DP, 37 PC6/TIM3_CH1/TIM8_CH1/FMPI2C1_SCL/I2S2_MCK/USART6_TX/SDIO_D6/DCMI_D0, 38 PC7/TIM3_CH2/TIM8_CH2/FMPI2C1_SDA/SPI2_SCK/I2S2_CK/I2S3_MCK/SPDIFRX_IN1/USART6_RX/SDIO_D7/DCMI_D1, 39 PC8/TRACED0/TIM3_CH3/TIM8_CH3/UART5_RTS/USART6_CK/SDIO_D0/DCMI_D2, 40 PC9/MCO2/TIM3_CH4/TIM8_CH4/I2C3_SDA/I2S_CKIN/UART5_CTS/QUADSPI_BK1_IO0/SDIO_D1/DCMI_D3, 41 PA8/MCO1/TIM1_CH1/I2C3_SCL/USART1_CK/OTG_FS_SOF, 42 PA9/TIM1_CH2/I2C3_SMBA/SPI2_SCK/I2S2_CK/SAI1_SD_B/USART1_TX/DCMI_D0/OTG_FS_VBUS, 43 PA10/TIM1_CH3/USART1_RX/OTG_FS_ID/DCMI_D1, 44 PA11/TIM1_CH4/USART1_CTS/CAN1_RX/OTG_FS_DM, 45 PA12/TIM1_ETR/USART1_RTS/SAI2_FS_B/CAN1_TX/OTG_FS_DP, 46 PA13/JTMSSWDIO, 47 VSS, 48 VDD, 49 PA14/JTCKSWCLK, 50 PA15/JTDI/TIM2_CH1/TIM2_ETR/HDMI_CEC/SPI1_NSS/I2S1_WS/SPI3_NSS/I2S3_WS/UART4_RTS, 51 PC10/SPI3_SCK/I2S3_CK/USART3_TX/UART4_TX/QUADSPI_BK1_IO1/SDIO_D2/DCMI_D8, 52 PC11/SPI3_MISO/USART3_RX/UART4_RX/QUADSPI_BK2_NCS/SDIO_D3/DCMI_D4, 53 PC12/I2C2_SDA/SPI3_MOSI/I2S3_SD/USART3_CK/UART5_TX/SDIO_CK/DCMI_D9, 54 PD2/TIM3_ETR/UART5_RX/SDIO_CMD/DCMI_D11, 55 PB3/JTDO/TRACESWO/TIM2_CH2/I2C2_SDA/SPI1_SCK/I2S1_CK/SPI3_SCK/I2S3_CK, 56 PB4/NJTRST/TIM3_CH1/I2C3_SDA/SPI1_MISO/SPI3_MISO/SPI2_NSS/I2S2_WS, 57 PB5/TIM3_CH2/I2C1_SMBA/SPI1_MOSI/I2S1_SD/SPI3_MOSI/I2S3_SD/CAN2_RX/OTG_HS_ULPI_D7/FMC_SDCKE1/DCMI_D10, 58 PB6/TIM4_CH1/HDMI_CEC/I2C1_SCL/USART1_TX/CAN2_TX/QUADSPI_BK1_NCS/FMC_SDNE1/DCMI_D5, 59 PB7/TIM4_CH2/I2C1_SDA/USART1_RX/SPDIFRX_IN0/FMC_NL/DCMI_VSYNC, 60 BOOT0/VPP, 61 PB8/TIM2_CH1/TIM2_ETR/TIM4_CH3/TIM10_CH1/I2C1_SCL/CAN1_RX/SDIO_D4/DCMI_D6, 62 PB9/TIM2_CH2/TIM4_CH4/TIM11_CH1/I2C1_SDA/SPI2_NSS/I2S2_WS/SAI1_FS_B/CAN1_TX/SDIO_D5/DCMI_D7, 63 VSS, 64 VDD


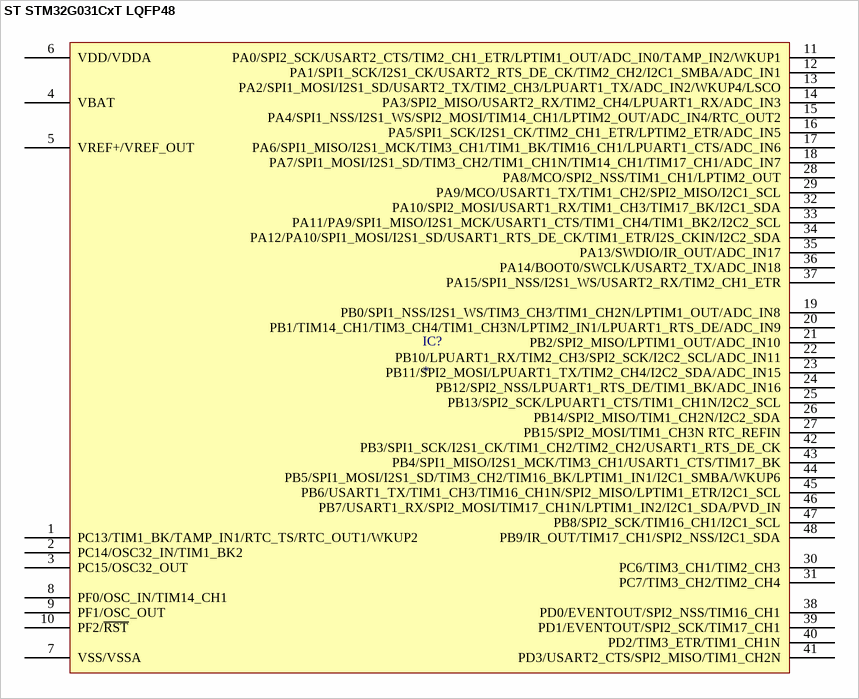
[diagram p537: symbol ST STM32G031CxT LQFP48]

## ST STM32G031CxT LQFP48
designator IC?
pins: 1 PC13/TIM1_BK/TAMP_IN1/RTC_TS/RTC_OUT1/WKUP2, 2 PC14/OSC32_IN/TIM1_BK2, 3 PC15/OSC32_OUT, 4 VBAT, 5 VREF+/VREF_OUT, 6 VDD/VDDA, 7 VSS/VSSA, 8 PF0/OSC_IN/TIM14_CH1, 9 PF1/OSC_OUT, 10 PF2/~{RST}, 11 PA0/SPI2_SCK/USART2_CTS/TIM2_CH1_ETR/LPTIM1_OUT/ADC_IN0/TAMP_IN2/WKUP1, 12 PA1/SPI1_SCK/I2S1_CK/USART2_RTS_DE_CK/TIM2_CH2/I2C1_SMBA/ADC_IN1, 13 PA2/SPI1_MOSI/I2S1_SD/USART2_TX/TIM2_CH3/LPUART1_TX/ADC_IN2/WKUP4/LSCO, 14 PA3/SPI2_MISO/USART2_RX/TIM2_CH4/LPUART1_RX/ADC_IN3, 15 PA4/SPI1_NSS/I2S1_WS/SPI2_MOSI/TIM14_CH1/LPTIM2_OUT/ADC_IN4/RTC_OUT2, 16 PA5/SPI1_SCK/I2S1_CK/TIM2_CH1_ETR/LPTIM2_ETR/ADC_IN5, 17 PA6/SPI1_MISO/I2S1_MCK/TIM3_CH1/TIM1_BK/TIM16_CH1/LPUART1_CTS/ADC_IN6, 18 PA7/SPI1_MOSI/I2S1_SD/TIM3_CH2/TIM1_CH1N/TIM14_CH1/TIM17_CH1/ADC_IN7, 19 PB0/SPI1_NSS/I2S1_WS/TIM3_CH3/TIM1_CH2N/LPTIM1_OUT/ADC_IN8, 20 PB1/TIM14_CH1/TIM3_CH4/TIM1_CH3N/LPTIM2_IN1/LPUART1_RTS_DE/ADC_IN9, 21 PB2/SPI2_MISO/LPTIM1_OUT/ADC_IN10, 22 PB10/LPUART1_RX/TIM2_CH3/SPI2_SCK/I2C2_SCL/ADC_IN11, 23 PB11/SPI2_MOSI/LPUART1_TX/TIM2_CH4/I2C2_SDA/ADC_IN15, 24 PB12/SPI2_NSS/LPUART1_RTS_DE/TIM1_BK/ADC_IN16, 25 PB13/SPI2_SCK/LPUART1_CTS/TIM1_CH1N/I2C2_SCL, 26 PB14/SPI2_MISO/TIM1_CH2N/I2C2_SDA, 27 PB15/SPI2_MOSI/TIM1_CH3N RTC_REFIN, 28 PA8/MCO/SPI2_NSS/TIM1_CH1/LPTIM2_OUT, 29 PA9/MCO/USART1_TX/TIM1_CH2/SPI2_MISO/I2C1_SCL, 30 PC6/TIM3_CH1/TIM2_CH3, 31 PC7/TIM3_CH2/TIM2_CH4, 32 PA10/SPI2_MOSI/USART1_RX/TIM1_CH3/TIM17_BK/I2C1_SDA, 33 PA11/PA9/SPI1_MISO/I2S1_MCK/USART1_CTS/TIM1_CH4/TIM1_BK2/I2C2_SCL, 34 PA12/PA10/SPI1_MOSI/I2S1_SD/USART1_RTS_DE_CK/TIM1_ETR/I2S_CKIN/I2C2_SDA, 35 PA13/SWDIO/IR_OUT/ADC_IN17, 36 PA14/BOOT0/SWCLK/USART2_TX/ADC_IN18, 37 PA15/SPI1_NSS/I2S1_WS/USART2_RX/TIM2_CH1_ETR, 38 PD0/EVENTOUT/SPI2_NSS/TIM16_CH1, 39 PD1/EVENTOUT/SPI2_SCK/TIM17_CH1, 40 PD2/TIM3_ETR/TIM1_CH1N, 41 PD3/USART2_CTS/SPI2_MISO/TIM1_CH2N, 42 PB3/SPI1_SCK/I2S1_CK/TIM1_CH2/TIM2_CH2/USART1_RTS_DE_CK, 43 PB4/SPI1_MISO/I2S1_MCK/TIM3_CH1/USART1_CTS/TIM17_BK, 44 PB5/SPI1_MOSI/I2S1_SD/TIM3_CH2/TIM16_BK/LPTIM1_IN1/I2C1_SMBA/WKUP6, 45 PB6/USART1_TX/TIM1_CH3/TIM16_CH1N/SPI2_MISO/LPTIM1_ETR/I2C1_SCL, 46 PB7/USART1_RX/SPI2_MOSI/TIM17_CH1N/LPTIM1_IN2/I2C1_SDA/PVD_IN, 47 PB8/SPI2_SCK/TIM16_CH1/I2C1_SCL, 48 PB9/IR_OUT/TIM17_CH1/SPI2_NSS/I2C1_SDA


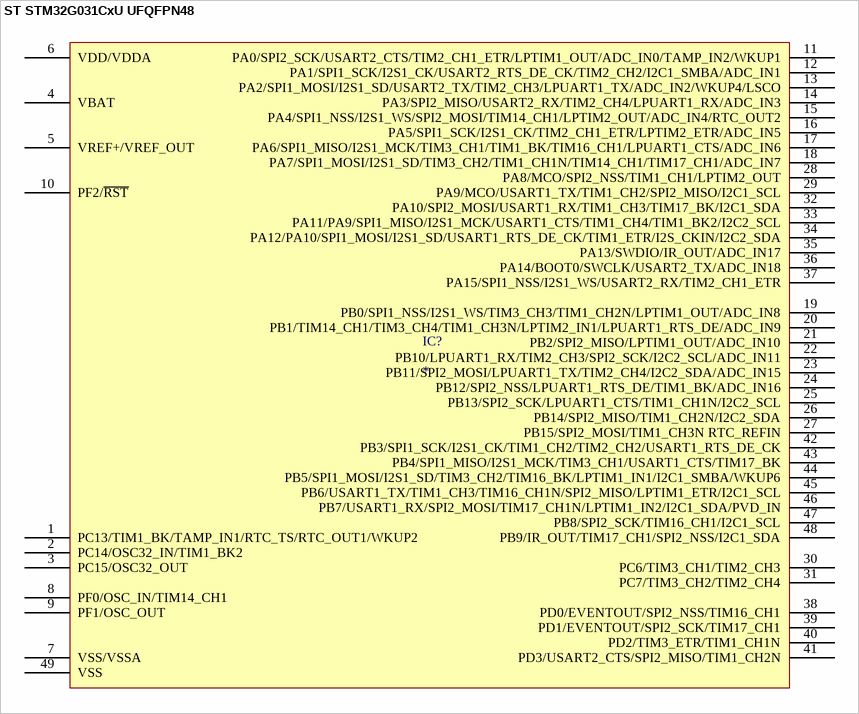
[diagram p538: symbol ST STM32G031CxU UFQFPN48]

## ST STM32G031CxU UFQFPN48
designator IC?
pins: 1 PC13/TIM1_BK/TAMP_IN1/RTC_TS/RTC_OUT1/WKUP2, 2 PC14/OSC32_IN/TIM1_BK2, 3 PC15/OSC32_OUT, 4 VBAT, 5 VREF+/VREF_OUT, 6 VDD/VDDA, 7 VSS/VSSA, 8 PF0/OSC_IN/TIM14_CH1, 9 PF1/OSC_OUT, 10 PF2/~{RST}, 11 PA0/SPI2_SCK/USART2_CTS/TIM2_CH1_ETR/LPTIM1_OUT/ADC_IN0/TAMP_IN2/WKUP1, 12 PA1/SPI1_SCK/I2S1_CK/USART2_RTS_DE_CK/TIM2_CH2/I2C1_SMBA/ADC_IN1, 13 PA2/SPI1_MOSI/I2S1_SD/USART2_TX/TIM2_CH3/LPUART1_TX/ADC_IN2/WKUP4/LSCO, 14 PA3/SPI2_MISO/USART2_RX/TIM2_CH4/LPUART1_RX/ADC_IN3, 15 PA4/SPI1_NSS/I2S1_WS/SPI2_MOSI/TIM14_CH1/LPTIM2_OUT/ADC_IN4/RTC_OUT2, 16 PA5/SPI1_SCK/I2S1_CK/TIM2_CH1_ETR/LPTIM2_ETR/ADC_IN5, 17 PA6/SPI1_MISO/I2S1_MCK/TIM3_CH1/TIM1_BK/TIM16_CH1/LPUART1_CTS/ADC_IN6, 18 PA7/SPI1_MOSI/I2S1_SD/TIM3_CH2/TIM1_CH1N/TIM14_CH1/TIM17_CH1/ADC_IN7, 19 PB0/SPI1_NSS/I2S1_WS/TIM3_CH3/TIM1_CH2N/LPTIM1_OUT/ADC_IN8, 20 PB1/TIM14_CH1/TIM3_CH4/TIM1_CH3N/LPTIM2_IN1/LPUART1_RTS_DE/ADC_IN9, 21 PB2/SPI2_MISO/LPTIM1_OUT/ADC_IN10, 22 PB10/LPUART1_RX/TIM2_CH3/SPI2_SCK/I2C2_SCL/ADC_IN11, 23 PB11/SPI2_MOSI/LPUART1_TX/TIM2_CH4/I2C2_SDA/ADC_IN15, 24 PB12/SPI2_NSS/LPUART1_RTS_DE/TIM1_BK/ADC_IN16, 25 PB13/SPI2_SCK/LPUART1_CTS/TIM1_CH1N/I2C2_SCL, 26 PB14/SPI2_MISO/TIM1_CH2N/I2C2_SDA, 27 PB15/SPI2_MOSI/TIM1_CH3N RTC_REFIN, 28 PA8/MCO/SPI2_NSS/TIM1_CH1/LPTIM2_OUT, 29 PA9/MCO/USART1_TX/TIM1_CH2/SPI2_MISO/I2C1_SCL, 30 PC6/TIM3_CH1/TIM2_CH3, 31 PC7/TIM3_CH2/TIM2_CH4, 32 PA10/SPI2_MOSI/USART1_RX/TIM1_CH3/TIM17_BK/I2C1_SDA, 33 PA11/PA9/SPI1_MISO/I2S1_MCK/USART1_CTS/TIM1_CH4/TIM1_BK2/I2C2_SCL, 34 PA12/PA10/SPI1_MOSI/I2S1_SD/USART1_RTS_DE_CK/TIM1_ETR/I2S_CKIN/I2C2_SDA, 35 PA13/SWDIO/IR_OUT/ADC_IN17, 36 PA14/BOOT0/SWCLK/USART2_TX/ADC_IN18, 37 PA15/SPI1_NSS/I2S1_WS/USART2_RX/TIM2_CH1_ETR, 38 PD0/EVENTOUT/SPI2_NSS/TIM16_CH1, 39 PD1/EVENTOUT/SPI2_SCK/TIM17_CH1, 40 PD2/TIM3_ETR/TIM1_CH1N, 41 PD3/USART2_CTS/SPI2_MISO/TIM1_CH2N, 42 PB3/SPI1_SCK/I2S1_CK/TIM1_CH2/TIM2_CH2/USART1_RTS_DE_CK, 43 PB4/SPI1_MISO/I2S1_MCK/TIM3_CH1/USART1_CTS/TIM17_BK, 44 PB5/SPI1_MOSI/I2S1_SD/TIM3_CH2/TIM16_BK/LPTIM1_IN1/I2C1_SMBA/WKUP6, 45 PB6/USART1_TX/TIM1_CH3/TIM16_CH1N/SPI2_MISO/LPTIM1_ETR/I2C1_SCL, 46 PB7/USART1_RX/SPI2_MOSI/TIM17_CH1N/LPTIM1_IN2/I2C1_SDA/PVD_IN, 47 PB8/SPI2_SCK/TIM16_CH1/I2C1_SCL, 48 PB9/IR_OUT/TIM17_CH1/SPI2_NSS/I2C1_SDA, 49 VSS


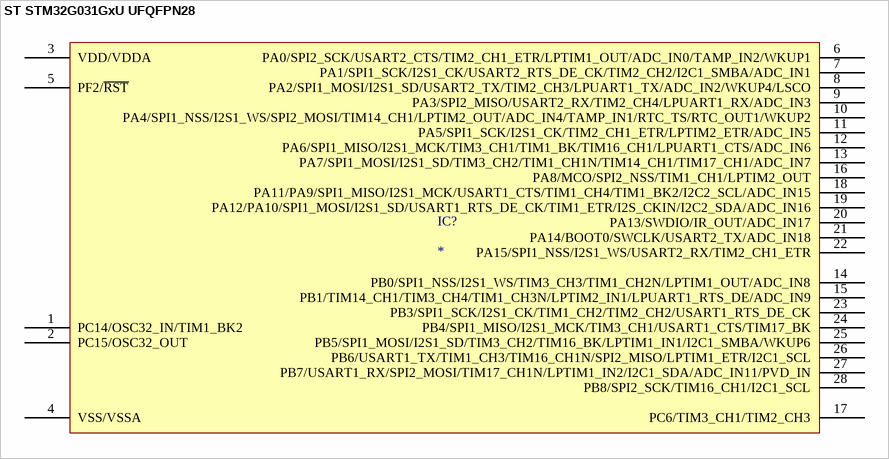
[diagram p539: symbol ST STM32G031GxU UFQFPN28]

## ST STM32G031GxU UFQFPN28
designator IC?
pins: 1 PC14/OSC32_IN/TIM1_BK2, 2 PC15/OSC32_OUT, 3 VDD/VDDA, 4 VSS/VSSA, 5 PF2/~{RST}, 6 PA0/SPI2_SCK/USART2_CTS/TIM2_CH1_ETR/LPTIM1_OUT/ADC_IN0/TAMP_IN2/WKUP1, 7 PA1/SPI1_SCK/I2S1_CK/USART2_RTS_DE_CK/TIM2_CH2/I2C1_SMBA/ADC_IN1, 8 PA2/SPI1_MOSI/I2S1_SD/USART2_TX/TIM2_CH3/LPUART1_TX/ADC_IN2/WKUP4/LSCO, 9 PA3/SPI2_MISO/USART2_RX/TIM2_CH4/LPUART1_RX/ADC_IN3, 10 PA4/SPI1_NSS/I2S1_WS/SPI2_MOSI/TIM14_CH1/LPTIM2_OUT/ADC_IN4/TAMP_IN1/RTC_TS/RTC_OUT1/WKUP2, 11 PA5/SPI1_SCK/I2S1_CK/TIM2_CH1_ETR/LPTIM2_ETR/ADC_IN5, 12 PA6/SPI1_MISO/I2S1_MCK/TIM3_CH1/TIM1_BK/TIM16_CH1/LPUART1_CTS/ADC_IN6, 13 PA7/SPI1_MOSI/I2S1_SD/TIM3_CH2/TIM1_CH1N/TIM14_CH1/TIM17_CH1/ADC_IN7, 14 PB0/SPI1_NSS/I2S1_WS/TIM3_CH3/TIM1_CH2N/LPTIM1_OUT/ADC_IN8, 15 PB1/TIM14_CH1/TIM3_CH4/TIM1_CH3N/LPTIM2_IN1/LPUART1_RTS_DE/ADC_IN9, 16 PA8/MCO/SPI2_NSS/TIM1_CH1/LPTIM2_OUT, 17 PC6/TIM3_CH1/TIM2_CH3, 18 PA11/PA9/SPI1_MISO/I2S1_MCK/USART1_CTS/TIM1_CH4/TIM1_BK2/I2C2_SCL/ADC_IN15, 19 PA12/PA10/SPI1_MOSI/I2S1_SD/USART1_RTS_DE_CK/TIM1_ETR/I2S_CKIN/I2C2_SDA/ADC_IN16, 20 PA13/SWDIO/IR_OUT/ADC_IN17, 21 PA14/BOOT0/SWCLK/USART2_TX/ADC_IN18, 22 PA15/SPI1_NSS/I2S1_WS/USART2_RX/TIM2_CH1_ETR, 23 PB3/SPI1_SCK/I2S1_CK/TIM1_CH2/TIM2_CH2/USART1_RTS_DE_CK, 24 PB4/SPI1_MISO/I2S1_MCK/TIM3_CH1/USART1_CTS/TIM17_BK, 25 PB5/SPI1_MOSI/I2S1_SD/TIM3_CH2/TIM16_BK/LPTIM1_IN1/I2C1_SMBA/WKUP6, 26 PB6/USART1_TX/TIM1_CH3/TIM16_CH1N/SPI2_MISO/LPTIM1_ETR/I2C1_SCL, 27 PB7/USART1_RX/SPI2_MOSI/TIM17_CH1N/LPTIM1_IN2/I2C1_SDA/ADC_IN11/PVD_IN, 28 PB8/SPI2_SCK/TIM16_CH1/I2C1_SCL


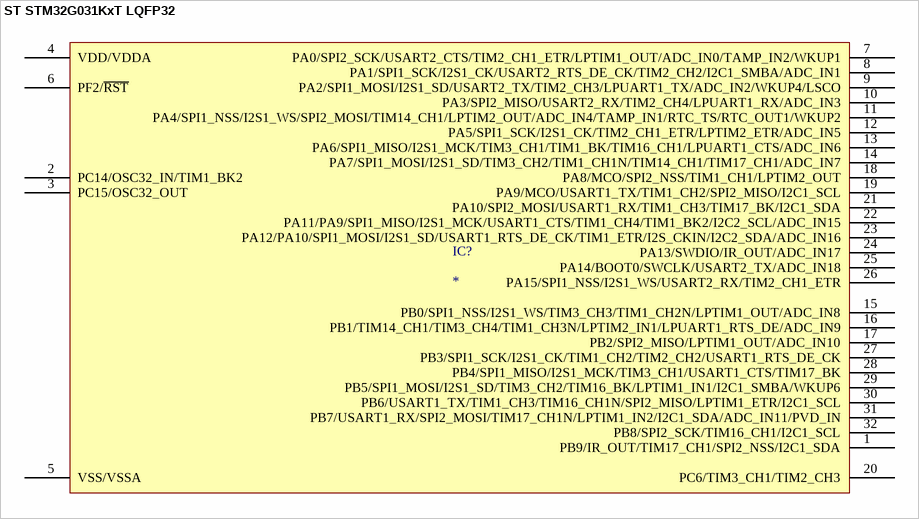
[diagram p540: symbol ST STM32G031KxT LQFP32]

## ST STM32G031KxT LQFP32
designator IC?
pins: 1 PB9/IR_OUT/TIM17_CH1/SPI2_NSS/I2C1_SDA, 2 PC14/OSC32_IN/TIM1_BK2, 3 PC15/OSC32_OUT, 4 VDD/VDDA, 5 VSS/VSSA, 6 PF2/~{RST}, 7 PA0/SPI2_SCK/USART2_CTS/TIM2_CH1_ETR/LPTIM1_OUT/ADC_IN0/TAMP_IN2/WKUP1, 8 PA1/SPI1_SCK/I2S1_CK/USART2_RTS_DE_CK/TIM2_CH2/I2C1_SMBA/ADC_IN1, 9 PA2/SPI1_MOSI/I2S1_SD/USART2_TX/TIM2_CH3/LPUART1_TX/ADC_IN2/WKUP4/LSCO, 10 PA3/SPI2_MISO/USART2_RX/TIM2_CH4/LPUART1_RX/ADC_IN3, 11 PA4/SPI1_NSS/I2S1_WS/SPI2_MOSI/TIM14_CH1/LPTIM2_OUT/ADC_IN4/TAMP_IN1/RTC_TS/RTC_OUT1/WKUP2, 12 PA5/SPI1_SCK/I2S1_CK/TIM2_CH1_ETR/LPTIM2_ETR/ADC_IN5, 13 PA6/SPI1_MISO/I2S1_MCK/TIM3_CH1/TIM1_BK/TIM16_CH1/LPUART1_CTS/ADC_IN6, 14 PA7/SPI1_MOSI/I2S1_SD/TIM3_CH2/TIM1_CH1N/TIM14_CH1/TIM17_CH1/ADC_IN7, 15 PB0/SPI1_NSS/I2S1_WS/TIM3_CH3/TIM1_CH2N/LPTIM1_OUT/ADC_IN8, 16 PB1/TIM14_CH1/TIM3_CH4/TIM1_CH3N/LPTIM2_IN1/LPUART1_RTS_DE/ADC_IN9, 17 PB2/SPI2_MISO/LPTIM1_OUT/ADC_IN10, 18 PA8/MCO/SPI2_NSS/TIM1_CH1/LPTIM2_OUT, 19 PA9/MCO/USART1_TX/TIM1_CH2/SPI2_MISO/I2C1_SCL, 20 PC6/TIM3_CH1/TIM2_CH3, 21 PA10/SPI2_MOSI/USART1_RX/TIM1_CH3/TIM17_BK/I2C1_SDA, 22 PA11/PA9/SPI1_MISO/I2S1_MCK/USART1_CTS/TIM1_CH4/TIM1_BK2/I2C2_SCL/ADC_IN15, 23 PA12/PA10/SPI1_MOSI/I2S1_SD/USART1_RTS_DE_CK/TIM1_ETR/I2S_CKIN/I2C2_SDA/ADC_IN16, 24 PA13/SWDIO/IR_OUT/ADC_IN17, 25 PA14/BOOT0/SWCLK/USART2_TX/ADC_IN18, 26 PA15/SPI1_NSS/I2S1_WS/USART2_RX/TIM2_CH1_ETR, 27 PB3/SPI1_SCK/I2S1_CK/TIM1_CH2/TIM2_CH2/USART1_RTS_DE_CK, 28 PB4/SPI1_MISO/I2S1_MCK/TIM3_CH1/USART1_CTS/TIM17_BK, 29 PB5/SPI1_MOSI/I2S1_SD/TIM3_CH2/TIM16_BK/LPTIM1_IN1/I2C1_SMBA/WKUP6, 30 PB6/USART1_TX/TIM1_CH3/TIM16_CH1N/SPI2_MISO/LPTIM1_ETR/I2C1_SCL, 31 PB7/USART1_RX/SPI2_MOSI/TIM17_CH1N/LPTIM1_IN2/I2C1_SDA/ADC_IN11/PVD_IN, 32 PB8/SPI2_SCK/TIM16_CH1/I2C1_SCL


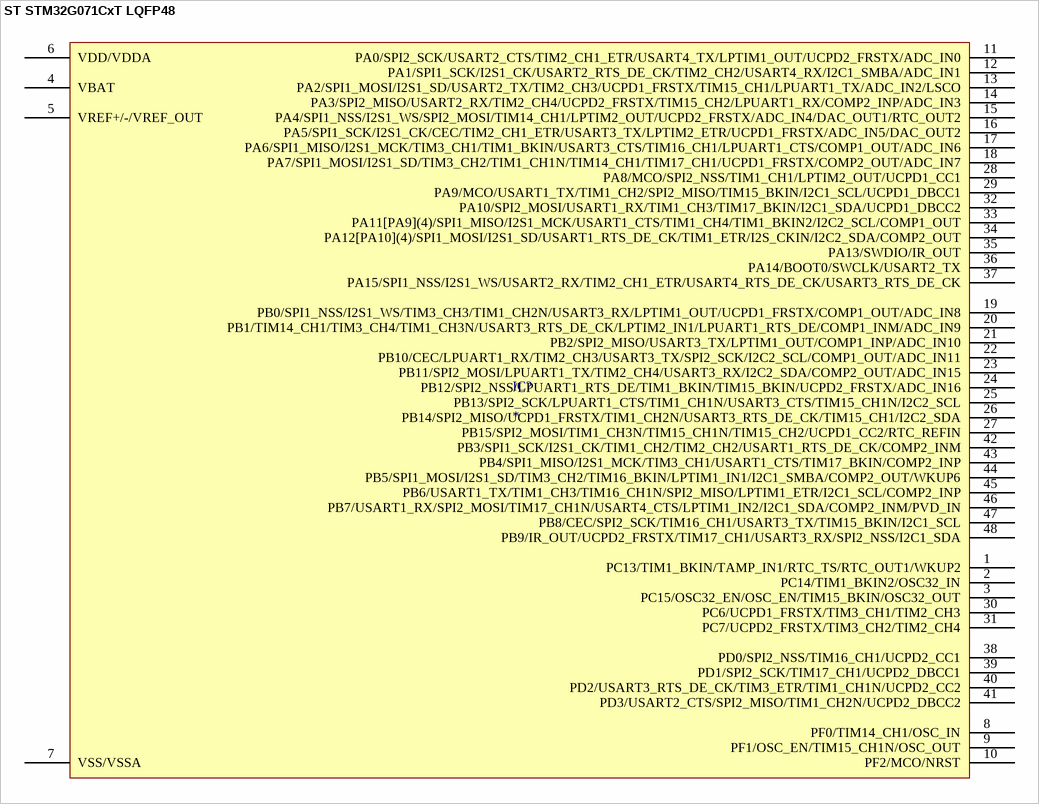
[diagram p541: symbol ST STM32G071CxT LQFP48]

## ST STM32G071CxT LQFP48
designator IC?
pins: 1 PC13/TIM1_BKIN/TAMP_IN1/RTC_TS/RTC_OUT1/WKUP2, 2 PC14/TIM1_BKIN2/OSC32_IN, 3 PC15/OSC32_EN/OSC_EN/TIM15_BKIN/OSC32_OUT, 4 VBAT, 5 VREF+/-/VREF_OUT, 6 VDD/VDDA, 7 VSS/VSSA, 8 PF0/TIM14_CH1/OSC_IN, 9 PF1/OSC_EN/TIM15_CH1N/OSC_OUT, 10 PF2/MCO/NRST, 11 PA0/SPI2_SCK/USART2_CTS/TIM2_CH1_ETR/USART4_TX/LPTIM1_OUT/UCPD2_FRSTX/ADC_IN0, 12 PA1/SPI1_SCK/I2S1_CK/USART2_RTS_DE_CK/TIM2_CH2/USART4_RX/I2C1_SMBA/ADC_IN1, 13 PA2/SPI1_MOSI/I2S1_SD/USART2_TX/TIM2_CH3/UCPD1_FRSTX/TIM15_CH1/LPUART1_TX/ADC_IN2/LSCO, 14 PA3/SPI2_MISO/USART2_RX/TIM2_CH4/UCPD2_FRSTX/TIM15_CH2/LPUART1_RX/COMP2_INP/ADC_IN3, 15 PA4/SPI1_NSS/I2S1_WS/SPI2_MOSI/TIM14_CH1/LPTIM2_OUT/UCPD2_FRSTX/ADC_IN4/DAC_OUT1/RTC_OUT2, 16 PA5/SPI1_SCK/I2S1_CK/CEC/TIM2_CH1_ETR/USART3_TX/LPTIM2_ETR/UCPD1_FRSTX/ADC_IN5/DAC_OUT2, 17 PA6/SPI1_MISO/I2S1_MCK/TIM3_CH1/TIM1_BKIN/USART3_CTS/TIM16_CH1/LPUART1_CTS/COMP1_OUT/ADC_IN6, 18 PA7/SPI1_MOSI/I2S1_SD/TIM3_CH2/TIM1_CH1N/TIM14_CH1/TIM17_CH1/UCPD1_FRSTX/COMP2_OUT/ADC_IN7, 19 PB0/SPI1_NSS/I2S1_WS/TIM3_CH3/TIM1_CH2N/USART3_RX/LPTIM1_OUT/UCPD1_FRSTX/COMP1_OUT/ADC_IN8, 20 PB1/TIM14_CH1/TIM3_CH4/TIM1_CH3N/USART3_RTS_DE_CK/LPTIM2_IN1/LPUART1_RTS_DE/COMP1_INM/ADC_IN9, 21 PB2/SPI2_MISO/USART3_TX/LPTIM1_OUT/COMP1_INP/ADC_IN10, 22 PB10/CEC/LPUART1_RX/TIM2_CH3/USART3_TX/SPI2_SCK/I2C2_SCL/COMP1_OUT/ADC_IN11, 23 PB11/SPI2_MOSI/LPUART1_TX/TIM2_CH4/USART3_RX/I2C2_SDA/COMP2_OUT/ADC_IN15, 24 PB12/SPI2_NSS/LPUART1_RTS_DE/TIM1_BKIN/TIM15_BKIN/UCPD2_FRSTX/ADC_IN16, 25 PB13/SPI2_SCK/LPUART1_CTS/TIM1_CH1N/USART3_CTS/TIM15_CH1N/I2C2_SCL, 26 PB14/SPI2_MISO/UCPD1_FRSTX/TIM1_CH2N/USART3_RTS_DE_CK/TIM15_CH1/I2C2_SDA, 27 PB15/SPI2_MOSI/TIM1_CH3N/TIM15_CH1N/TIM15_CH2/UCPD1_CC2/RTC_REFIN, 28 PA8/MCO/SPI2_NSS/TIM1_CH1/LPTIM2_OUT/UCPD1_CC1, 29 PA9/MCO/USART1_TX/TIM1_CH2/SPI2_MISO/TIM15_BKIN/I2C1_SCL/UCPD1_DBCC1, 30 PC6/UCPD1_FRSTX/TIM3_CH1/TIM2_CH3, 31 PC7/UCPD2_FRSTX/TIM3_CH2/TIM2_CH4, 32 PA10/SPI2_MOSI/USART1_RX/TIM1_CH3/TIM17_BKIN/I2C1_SDA/UCPD1_DBCC2, 33 PA11[PA9](4)/SPI1_MISO/I2S1_MCK/USART1_CTS/TIM1_CH4/TIM1_BKIN2/I2C2_SCL/COMP1_OUT, 34 PA12[PA10](4)/SPI1_MOSI/I2S1_SD/USART1_RTS_DE_CK/TIM1_ETR/I2S_CKIN/I2C2_SDA/COMP2_OUT, 35 PA13/SWDIO/IR_OUT, 36 PA14/BOOT0/SWCLK/USART2_TX, 37 PA15/SPI1_NSS/I2S1_WS/USART2_RX/TIM2_CH1_ETR/USART4_RTS_DE_CK/USART3_RTS_DE_CK, 38 PD0/SPI2_NSS/TIM16_CH1/UCPD2_CC1, 39 PD1/SPI2_SCK/TIM17_CH1/UCPD2_DBCC1, 40 PD2/USART3_RTS_DE_CK/TIM3_ETR/TIM1_CH1N/UCPD2_CC2, 41 PD3/USART2_CTS/SPI2_MISO/TIM1_CH2N/UCPD2_DBCC2, 42 PB3/SPI1_SCK/I2S1_CK/TIM1_CH2/TIM2_CH2/USART1_RTS_DE_CK/COMP2_INM, 43 PB4/SPI1_MISO/I2S1_MCK/TIM3_CH1/USART1_CTS/TIM17_BKIN/COMP2_INP, 44 PB5/SPI1_MOSI/I2S1_SD/TIM3_CH2/TIM16_BKIN/LPTIM1_IN1/I2C1_SMBA/COMP2_OUT/WKUP6, 45 PB6/USART1_TX/TIM1_CH3/TIM16_CH1N/SPI2_MISO/LPTIM1_ETR/I2C1_SCL/COMP2_INP, 46 PB7/USART1_RX/SPI2_MOSI/TIM17_CH1N/USART4_CTS/LPTIM1_IN2/I2C1_SDA/COMP2_INM/PVD_IN, 47 PB8/CEC/SPI2_SCK/TIM16_CH1/USART3_TX/TIM15_BKIN/I2C1_SCL, 48 PB9/IR_OUT/UCPD2_FRSTX/TIM17_CH1/USART3_RX/SPI2_NSS/I2C1_SDA


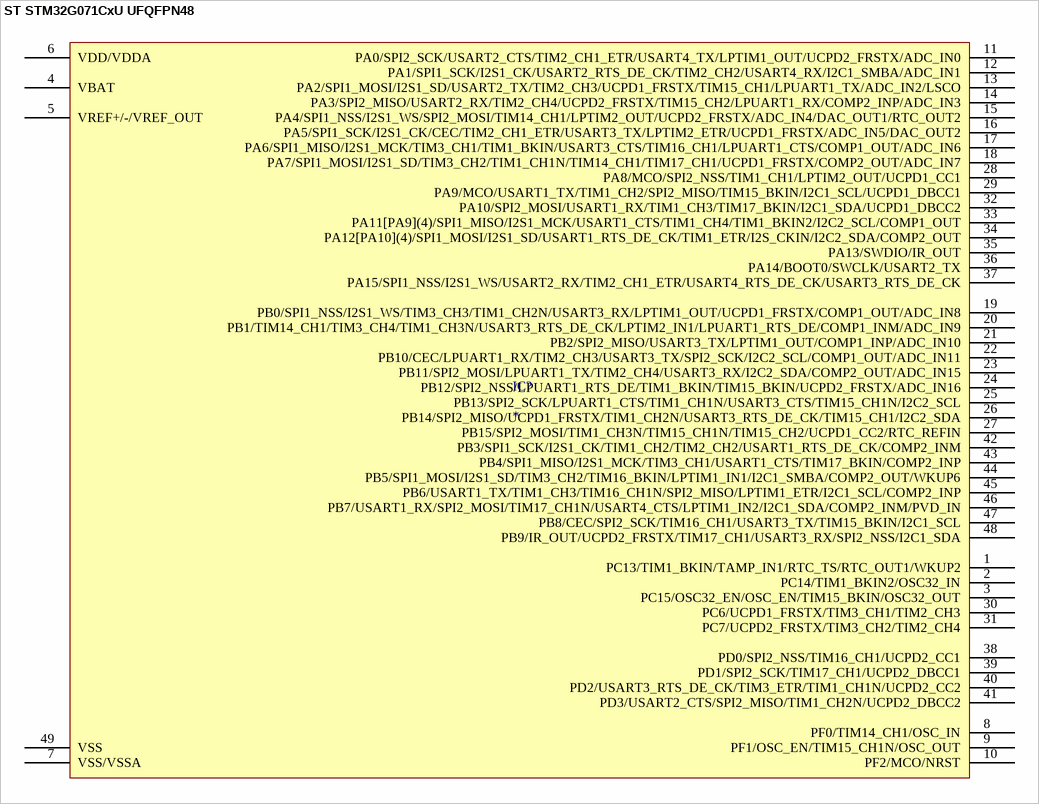
[diagram p542: symbol ST STM32G071CxU UFQFPN48]

## ST STM32G071CxU UFQFPN48
designator IC?
pins: 1 PC13/TIM1_BKIN/TAMP_IN1/RTC_TS/RTC_OUT1/WKUP2, 2 PC14/TIM1_BKIN2/OSC32_IN, 3 PC15/OSC32_EN/OSC_EN/TIM15_BKIN/OSC32_OUT, 4 VBAT, 5 VREF+/-/VREF_OUT, 6 VDD/VDDA, 7 VSS/VSSA, 8 PF0/TIM14_CH1/OSC_IN, 9 PF1/OSC_EN/TIM15_CH1N/OSC_OUT, 10 PF2/MCO/NRST, 11 PA0/SPI2_SCK/USART2_CTS/TIM2_CH1_ETR/USART4_TX/LPTIM1_OUT/UCPD2_FRSTX/ADC_IN0, 12 PA1/SPI1_SCK/I2S1_CK/USART2_RTS_DE_CK/TIM2_CH2/USART4_RX/I2C1_SMBA/ADC_IN1, 13 PA2/SPI1_MOSI/I2S1_SD/USART2_TX/TIM2_CH3/UCPD1_FRSTX/TIM15_CH1/LPUART1_TX/ADC_IN2/LSCO, 14 PA3/SPI2_MISO/USART2_RX/TIM2_CH4/UCPD2_FRSTX/TIM15_CH2/LPUART1_RX/COMP2_INP/ADC_IN3, 15 PA4/SPI1_NSS/I2S1_WS/SPI2_MOSI/TIM14_CH1/LPTIM2_OUT/UCPD2_FRSTX/ADC_IN4/DAC_OUT1/RTC_OUT2, 16 PA5/SPI1_SCK/I2S1_CK/CEC/TIM2_CH1_ETR/USART3_TX/LPTIM2_ETR/UCPD1_FRSTX/ADC_IN5/DAC_OUT2, 17 PA6/SPI1_MISO/I2S1_MCK/TIM3_CH1/TIM1_BKIN/USART3_CTS/TIM16_CH1/LPUART1_CTS/COMP1_OUT/ADC_IN6, 18 PA7/SPI1_MOSI/I2S1_SD/TIM3_CH2/TIM1_CH1N/TIM14_CH1/TIM17_CH1/UCPD1_FRSTX/COMP2_OUT/ADC_IN7, 19 PB0/SPI1_NSS/I2S1_WS/TIM3_CH3/TIM1_CH2N/USART3_RX/LPTIM1_OUT/UCPD1_FRSTX/COMP1_OUT/ADC_IN8, 20 PB1/TIM14_CH1/TIM3_CH4/TIM1_CH3N/USART3_RTS_DE_CK/LPTIM2_IN1/LPUART1_RTS_DE/COMP1_INM/ADC_IN9, 21 PB2/SPI2_MISO/USART3_TX/LPTIM1_OUT/COMP1_INP/ADC_IN10, 22 PB10/CEC/LPUART1_RX/TIM2_CH3/USART3_TX/SPI2_SCK/I2C2_SCL/COMP1_OUT/ADC_IN11, 23 PB11/SPI2_MOSI/LPUART1_TX/TIM2_CH4/USART3_RX/I2C2_SDA/COMP2_OUT/ADC_IN15, 24 PB12/SPI2_NSS/LPUART1_RTS_DE/TIM1_BKIN/TIM15_BKIN/UCPD2_FRSTX/ADC_IN16, 25 PB13/SPI2_SCK/LPUART1_CTS/TIM1_CH1N/USART3_CTS/TIM15_CH1N/I2C2_SCL, 26 PB14/SPI2_MISO/UCPD1_FRSTX/TIM1_CH2N/USART3_RTS_DE_CK/TIM15_CH1/I2C2_SDA, 27 PB15/SPI2_MOSI/TIM1_CH3N/TIM15_CH1N/TIM15_CH2/UCPD1_CC2/RTC_REFIN, 28 PA8/MCO/SPI2_NSS/TIM1_CH1/LPTIM2_OUT/UCPD1_CC1, 29 PA9/MCO/USART1_TX/TIM1_CH2/SPI2_MISO/TIM15_BKIN/I2C1_SCL/UCPD1_DBCC1, 30 PC6/UCPD1_FRSTX/TIM3_CH1/TIM2_CH3, 31 PC7/UCPD2_FRSTX/TIM3_CH2/TIM2_CH4, 32 PA10/SPI2_MOSI/USART1_RX/TIM1_CH3/TIM17_BKIN/I2C1_SDA/UCPD1_DBCC2, 33 PA11[PA9](4)/SPI1_MISO/I2S1_MCK/USART1_CTS/TIM1_CH4/TIM1_BKIN2/I2C2_SCL/COMP1_OUT, 34 PA12[PA10](4)/SPI1_MOSI/I2S1_SD/USART1_RTS_DE_CK/TIM1_ETR/I2S_CKIN/I2C2_SDA/COMP2_OUT, 35 PA13/SWDIO/IR_OUT, 36 PA14/BOOT0/SWCLK/USART2_TX, 37 PA15/SPI1_NSS/I2S1_WS/USART2_RX/TIM2_CH1_ETR/USART4_RTS_DE_CK/USART3_RTS_DE_CK, 38 PD0/SPI2_NSS/TIM16_CH1/UCPD2_CC1, 39 PD1/SPI2_SCK/TIM17_CH1/UCPD2_DBCC1, 40 PD2/USART3_RTS_DE_CK/TIM3_ETR/TIM1_CH1N/UCPD2_CC2, 41 PD3/USART2_CTS/SPI2_MISO/TIM1_CH2N/UCPD2_DBCC2, 42 PB3/SPI1_SCK/I2S1_CK/TIM1_CH2/TIM2_CH2/USART1_RTS_DE_CK/COMP2_INM, 43 PB4/SPI1_MISO/I2S1_MCK/TIM3_CH1/USART1_CTS/TIM17_BKIN/COMP2_INP, 44 PB5/SPI1_MOSI/I2S1_SD/TIM3_CH2/TIM16_BKIN/LPTIM1_IN1/I2C1_SMBA/COMP2_OUT/WKUP6, 45 PB6/USART1_TX/TIM1_CH3/TIM16_CH1N/SPI2_MISO/LPTIM1_ETR/I2C1_SCL/COMP2_INP, 46 PB7/USART1_RX/SPI2_MOSI/TIM17_CH1N/USART4_CTS/LPTIM1_IN2/I2C1_SDA/COMP2_INM/PVD_IN, 47 PB8/CEC/SPI2_SCK/TIM16_CH1/USART3_TX/TIM15_BKIN/I2C1_SCL, 48 PB9/IR_OUT/UCPD2_FRSTX/TIM17_CH1/USART3_RX/SPI2_NSS/I2C1_SDA, 49 VSS


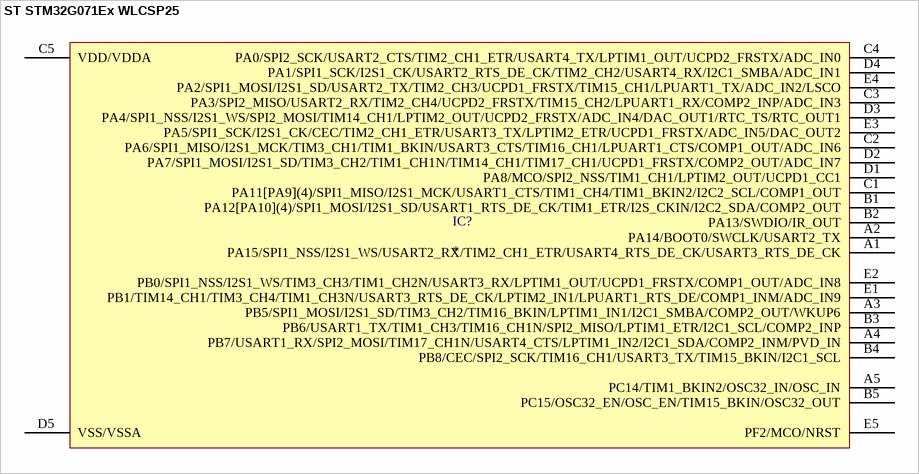
[diagram p543: symbol ST STM32G071Ex WLCSP25]

## ST STM32G071Ex WLCSP25
designator IC?
pins: A1 PA15/SPI1_NSS/I2S1_WS/USART2_RX/TIM2_CH1_ETR/USART4_RTS_DE_CK/USART3_RTS_DE_CK, A2 PA14/BOOT0/SWCLK/USART2_TX, A3 PB5/SPI1_MOSI/I2S1_SD/TIM3_CH2/TIM16_BKIN/LPTIM1_IN1/I2C1_SMBA/COMP2_OUT/WKUP6, A4 PB7/USART1_RX/SPI2_MOSI/TIM17_CH1N/USART4_CTS/LPTIM1_IN2/I2C1_SDA/COMP2_INM/PVD_IN, A5 PC14/TIM1_BKIN2/OSC32_IN/OSC_IN, B1 PA12[PA10](4)/SPI1_MOSI/I2S1_SD/USART1_RTS_DE_CK/TIM1_ETR/I2S_CKIN/I2C2_SDA/COMP2_OUT, B2 PA13/SWDIO/IR_OUT, B3 PB6/USART1_TX/TIM1_CH3/TIM16_CH1N/SPI2_MISO/LPTIM1_ETR/I2C1_SCL/COMP2_INP, B4 PB8/CEC/SPI2_SCK/TIM16_CH1/USART3_TX/TIM15_BKIN/I2C1_SCL, B5 PC15/OSC32_EN/OSC_EN/TIM15_BKIN/OSC32_OUT, C1 PA11[PA9](4)/SPI1_MISO/I2S1_MCK/USART1_CTS/TIM1_CH4/TIM1_BKIN2/I2C2_SCL/COMP1_OUT, C2 PA6/SPI1_MISO/I2S1_MCK/TIM3_CH1/TIM1_BKIN/USART3_CTS/TIM16_CH1/LPUART1_CTS/COMP1_OUT/ADC_IN6, C3 PA3/SPI2_MISO/USART2_RX/TIM2_CH4/UCPD2_FRSTX/TIM15_CH2/LPUART1_RX/COMP2_INP/ADC_IN3, C4 PA0/SPI2_SCK/USART2_CTS/TIM2_CH1_ETR/USART4_TX/LPTIM1_OUT/UCPD2_FRSTX/ADC_IN0, C5 VDD/VDDA, D1 PA8/MCO/SPI2_NSS/TIM1_CH1/LPTIM2_OUT/UCPD1_CC1, D2 PA7/SPI1_MOSI/I2S1_SD/TIM3_CH2/TIM1_CH1N/TIM14_CH1/TIM17_CH1/UCPD1_FRSTX/COMP2_OUT/ADC_IN7, D3 PA4/SPI1_NSS/I2S1_WS/SPI2_MOSI/TIM14_CH1/LPTIM2_OUT/UCPD2_FRSTX/ADC_IN4/DAC_OUT1/RTC_TS/RTC_OUT1, D4 PA1/SPI1_SCK/I2S1_CK/USART2_RTS_DE_CK/TIM2_CH2/USART4_RX/I2C1_SMBA/ADC_IN1, D5 VSS/VSSA, E1 PB1/TIM14_CH1/TIM3_CH4/TIM1_CH3N/USART3_RTS_DE_CK/LPTIM2_IN1/LPUART1_RTS_DE/COMP1_INM/ADC_IN9, E2 PB0/SPI1_NSS/I2S1_WS/TIM3_CH3/TIM1_CH2N/USART3_RX/LPTIM1_OUT/UCPD1_FRSTX/COMP1_OUT/ADC_IN8, E3 PA5/SPI1_SCK/I2S1_CK/CEC/TIM2_CH1_ETR/USART3_TX/LPTIM2_ETR/UCPD1_FRSTX/ADC_IN5/DAC_OUT2, E4 PA2/SPI1_MOSI/I2S1_SD/USART2_TX/TIM2_CH3/UCPD1_FRSTX/TIM15_CH1/LPUART1_TX/ADC_IN2/LSCO, E5 PF2/MCO/NRST


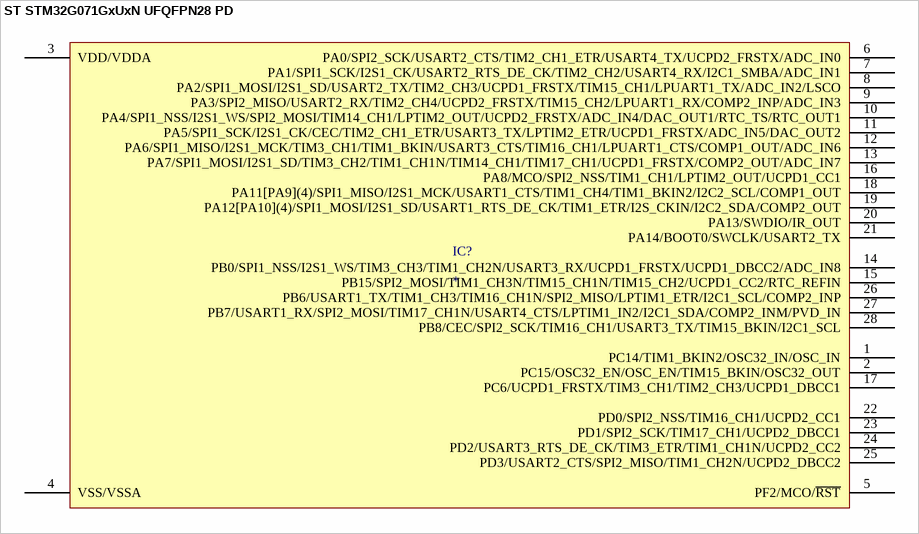
[diagram p544: symbol ST STM32G071GxUxN UFQFPN28 PD]

## ST STM32G071GxUxN UFQFPN28 PD
designator IC?
pins: 1 PC14/TIM1_BKIN2/OSC32_IN/OSC_IN, 2 PC15/OSC32_EN/OSC_EN/TIM15_BKIN/OSC32_OUT, 3 VDD/VDDA, 4 VSS/VSSA, 5 PF2/MCO/~{RST}, 6 PA0/SPI2_SCK/USART2_CTS/TIM2_CH1_ETR/USART4_TX/UCPD2_FRSTX/ADC_IN0, 7 PA1/SPI1_SCK/I2S1_CK/USART2_RTS_DE_CK/TIM2_CH2/USART4_RX/I2C1_SMBA/ADC_IN1, 8 PA2/SPI1_MOSI/I2S1_SD/USART2_TX/TIM2_CH3/UCPD1_FRSTX/TIM15_CH1/LPUART1_TX/ADC_IN2/LSCO, 9 PA3/SPI2_MISO/USART2_RX/TIM2_CH4/UCPD2_FRSTX/TIM15_CH2/LPUART1_RX/COMP2_INP/ADC_IN3, 10 PA4/SPI1_NSS/I2S1_WS/SPI2_MOSI/TIM14_CH1/LPTIM2_OUT/UCPD2_FRSTX/ADC_IN4/DAC_OUT1/RTC_TS/RTC_OUT1, 11 PA5/SPI1_SCK/I2S1_CK/CEC/TIM2_CH1_ETR/USART3_TX/LPTIM2_ETR/UCPD1_FRSTX/ADC_IN5/DAC_OUT2, 12 PA6/SPI1_MISO/I2S1_MCK/TIM3_CH1/TIM1_BKIN/USART3_CTS/TIM16_CH1/LPUART1_CTS/COMP1_OUT/ADC_IN6, 13 PA7/SPI1_MOSI/I2S1_SD/TIM3_CH2/TIM1_CH1N/TIM14_CH1/TIM17_CH1/UCPD1_FRSTX/COMP2_OUT/ADC_IN7, 14 PB0/SPI1_NSS/I2S1_WS/TIM3_CH3/TIM1_CH2N/USART3_RX/UCPD1_FRSTX/UCPD1_DBCC2/ADC_IN8, 15 PB15/SPI2_MOSI/TIM1_CH3N/TIM15_CH1N/TIM15_CH2/UCPD1_CC2/RTC_REFIN, 16 PA8/MCO/SPI2_NSS/TIM1_CH1/LPTIM2_OUT/UCPD1_CC1, 17 PC6/UCPD1_FRSTX/TIM3_CH1/TIM2_CH3/UCPD1_DBCC1, 18 PA11[PA9](4)/SPI1_MISO/I2S1_MCK/USART1_CTS/TIM1_CH4/TIM1_BKIN2/I2C2_SCL/COMP1_OUT, 19 PA12[PA10](4)/SPI1_MOSI/I2S1_SD/USART1_RTS_DE_CK/TIM1_ETR/I2S_CKIN/I2C2_SDA/COMP2_OUT, 20 PA13/SWDIO/IR_OUT, 21 PA14/BOOT0/SWCLK/USART2_TX, 22 PD0/SPI2_NSS/TIM16_CH1/UCPD2_CC1, 23 PD1/SPI2_SCK/TIM17_CH1/UCPD2_DBCC1, 24 PD2/USART3_RTS_DE_CK/TIM3_ETR/TIM1_CH1N/UCPD2_CC2, 25 PD3/USART2_CTS/SPI2_MISO/TIM1_CH2N/UCPD2_DBCC2, 26 PB6/USART1_TX/TIM1_CH3/TIM16_CH1N/SPI2_MISO/LPTIM1_ETR/I2C1_SCL/COMP2_INP, 27 PB7/USART1_RX/SPI2_MOSI/TIM17_CH1N/USART4_CTS/LPTIM1_IN2/I2C1_SDA/COMP2_INM/PVD_IN, 28 PB8/CEC/SPI2_SCK/TIM16_CH1/USART3_TX/TIM15_BKIN/I2C1_SCL


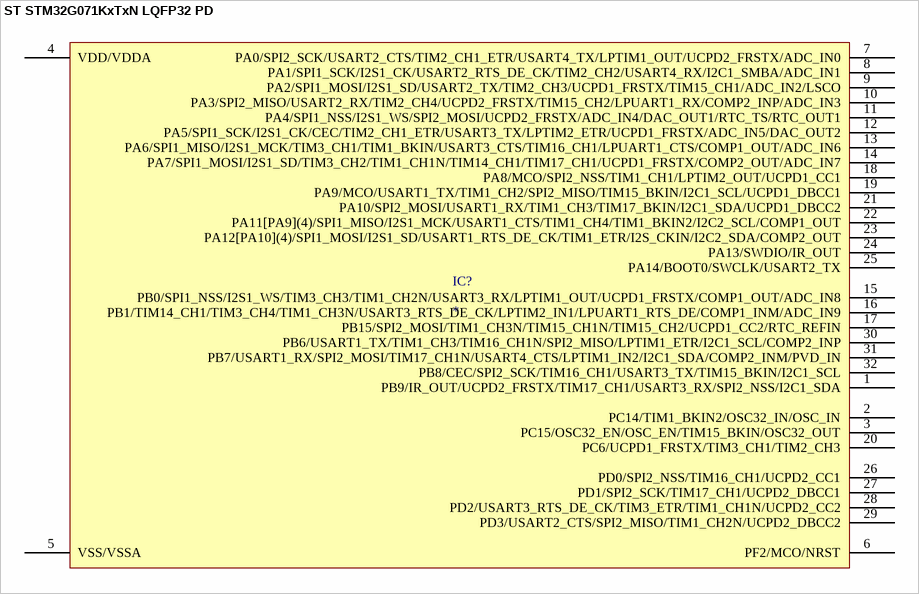
[diagram p545: symbol ST STM32G071KxTxN LQFP32 PD]

## ST STM32G071KxTxN LQFP32 PD
designator IC?
pins: 1 PB9/IR_OUT/UCPD2_FRSTX/TIM17_CH1/USART3_RX/SPI2_NSS/I2C1_SDA, 2 PC14/TIM1_BKIN2/OSC32_IN/OSC_IN, 3 PC15/OSC32_EN/OSC_EN/TIM15_BKIN/OSC32_OUT, 4 VDD/VDDA, 5 VSS/VSSA, 6 PF2/MCO/NRST, 7 PA0/SPI2_SCK/USART2_CTS/TIM2_CH1_ETR/USART4_TX/LPTIM1_OUT/UCPD2_FRSTX/ADC_IN0, 8 PA1/SPI1_SCK/I2S1_CK/USART2_RTS_DE_CK/TIM2_CH2/USART4_RX/I2C1_SMBA/ADC_IN1, 9 PA2/SPI1_MOSI/I2S1_SD/USART2_TX/TIM2_CH3/UCPD1_FRSTX/TIM15_CH1/ADC_IN2/LSCO, 10 PA3/SPI2_MISO/USART2_RX/TIM2_CH4/UCPD2_FRSTX/TIM15_CH2/LPUART1_RX/COMP2_INP/ADC_IN3, 11 PA4/SPI1_NSS/I2S1_WS/SPI2_MOSI/UCPD2_FRSTX/ADC_IN4/DAC_OUT1/RTC_TS/RTC_OUT1, 12 PA5/SPI1_SCK/I2S1_CK/CEC/TIM2_CH1_ETR/USART3_TX/LPTIM2_ETR/UCPD1_FRSTX/ADC_IN5/DAC_OUT2, 13 PA6/SPI1_MISO/I2S1_MCK/TIM3_CH1/TIM1_BKIN/USART3_CTS/TIM16_CH1/LPUART1_CTS/COMP1_OUT/ADC_IN6, 14 PA7/SPI1_MOSI/I2S1_SD/TIM3_CH2/TIM1_CH1N/TIM14_CH1/TIM17_CH1/UCPD1_FRSTX/COMP2_OUT/ADC_IN7, 15 PB0/SPI1_NSS/I2S1_WS/TIM3_CH3/TIM1_CH2N/USART3_RX/LPTIM1_OUT/UCPD1_FRSTX/COMP1_OUT/ADC_IN8, 16 PB1/TIM14_CH1/TIM3_CH4/TIM1_CH3N/USART3_RTS_DE_CK/LPTIM2_IN1/LPUART1_RTS_DE/COMP1_INM/ADC_IN9, 17 PB15/SPI2_MOSI/TIM1_CH3N/TIM15_CH1N/TIM15_CH2/UCPD1_CC2/RTC_REFIN, 18 PA8/MCO/SPI2_NSS/TIM1_CH1/LPTIM2_OUT/UCPD1_CC1, 19 PA9/MCO/USART1_TX/TIM1_CH2/SPI2_MISO/TIM15_BKIN/I2C1_SCL/UCPD1_DBCC1, 20 PC6/UCPD1_FRSTX/TIM3_CH1/TIM2_CH3, 21 PA10/SPI2_MOSI/USART1_RX/TIM1_CH3/TIM17_BKIN/I2C1_SDA/UCPD1_DBCC2, 22 PA11[PA9](4)/SPI1_MISO/I2S1_MCK/USART1_CTS/TIM1_CH4/TIM1_BKIN2/I2C2_SCL/COMP1_OUT, 23 PA12[PA10](4)/SPI1_MOSI/I2S1_SD/USART1_RTS_DE_CK/TIM1_ETR/I2S_CKIN/I2C2_SDA/COMP2_OUT, 24 PA13/SWDIO/IR_OUT, 25 PA14/BOOT0/SWCLK/USART2_TX, 26 PD0/SPI2_NSS/TIM16_CH1/UCPD2_CC1, 27 PD1/SPI2_SCK/TIM17_CH1/UCPD2_DBCC1, 28 PD2/USART3_RTS_DE_CK/TIM3_ETR/TIM1_CH1N/UCPD2_CC2, 29 PD3/USART2_CTS/SPI2_MISO/TIM1_CH2N/UCPD2_DBCC2, 30 PB6/USART1_TX/TIM1_CH3/TIM16_CH1N/SPI2_MISO/LPTIM1_ETR/I2C1_SCL/COMP2_INP, 31 PB7/USART1_RX/SPI2_MOSI/TIM17_CH1N/USART4_CTS/LPTIM1_IN2/I2C1_SDA/COMP2_INM/PVD_IN, 32 PB8/CEC/SPI2_SCK/TIM16_CH1/USART3_TX/TIM15_BKIN/I2C1_SCL


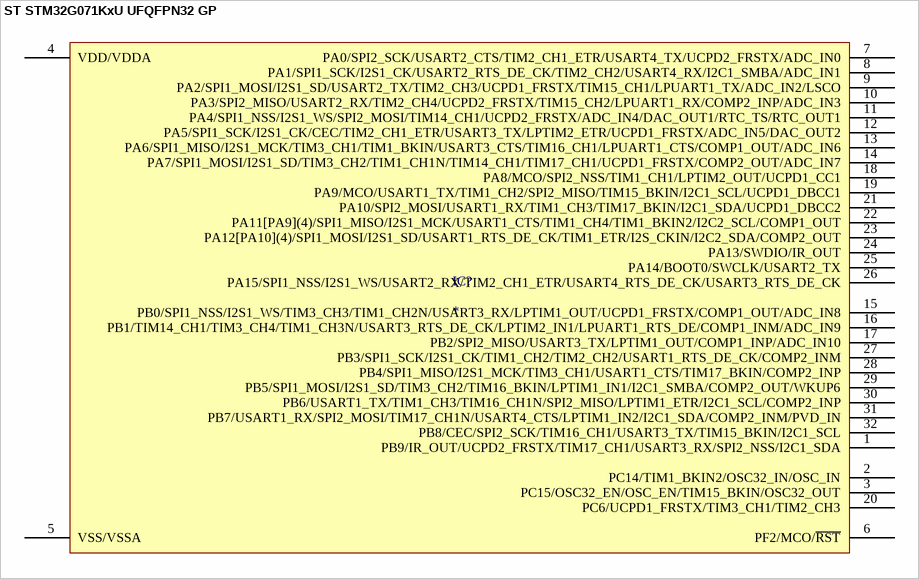
[diagram p546: symbol ST STM32G071KxU UFQFPN32 GP]

## ST STM32G071KxU UFQFPN32 GP
designator IC?
pins: 1 PB9/IR_OUT/UCPD2_FRSTX/TIM17_CH1/USART3_RX/SPI2_NSS/I2C1_SDA, 2 PC14/TIM1_BKIN2/OSC32_IN/OSC_IN, 3 PC15/OSC32_EN/OSC_EN/TIM15_BKIN/OSC32_OUT, 4 VDD/VDDA, 5 VSS/VSSA, 6 PF2/MCO/~{RST}, 7 PA0/SPI2_SCK/USART2_CTS/TIM2_CH1_ETR/USART4_TX/UCPD2_FRSTX/ADC_IN0, 8 PA1/SPI1_SCK/I2S1_CK/USART2_RTS_DE_CK/TIM2_CH2/USART4_RX/I2C1_SMBA/ADC_IN1, 9 PA2/SPI1_MOSI/I2S1_SD/USART2_TX/TIM2_CH3/UCPD1_FRSTX/TIM15_CH1/LPUART1_TX/ADC_IN2/LSCO, 10 PA3/SPI2_MISO/USART2_RX/TIM2_CH4/UCPD2_FRSTX/TIM15_CH2/LPUART1_RX/COMP2_INP/ADC_IN3, 11 PA4/SPI1_NSS/I2S1_WS/SPI2_MOSI/TIM14_CH1/UCPD2_FRSTX/ADC_IN4/DAC_OUT1/RTC_TS/RTC_OUT1, 12 PA5/SPI1_SCK/I2S1_CK/CEC/TIM2_CH1_ETR/USART3_TX/LPTIM2_ETR/UCPD1_FRSTX/ADC_IN5/DAC_OUT2, 13 PA6/SPI1_MISO/I2S1_MCK/TIM3_CH1/TIM1_BKIN/USART3_CTS/TIM16_CH1/LPUART1_CTS/COMP1_OUT/ADC_IN6, 14 PA7/SPI1_MOSI/I2S1_SD/TIM3_CH2/TIM1_CH1N/TIM14_CH1/TIM17_CH1/UCPD1_FRSTX/COMP2_OUT/ADC_IN7, 15 PB0/SPI1_NSS/I2S1_WS/TIM3_CH3/TIM1_CH2N/USART3_RX/LPTIM1_OUT/UCPD1_FRSTX/COMP1_OUT/ADC_IN8, 16 PB1/TIM14_CH1/TIM3_CH4/TIM1_CH3N/USART3_RTS_DE_CK/LPTIM2_IN1/LPUART1_RTS_DE/COMP1_INM/ADC_IN9, 17 PB2/SPI2_MISO/USART3_TX/LPTIM1_OUT/COMP1_INP/ADC_IN10, 18 PA8/MCO/SPI2_NSS/TIM1_CH1/LPTIM2_OUT/UCPD1_CC1, 19 PA9/MCO/USART1_TX/TIM1_CH2/SPI2_MISO/TIM15_BKIN/I2C1_SCL/UCPD1_DBCC1, 20 PC6/UCPD1_FRSTX/TIM3_CH1/TIM2_CH3, 21 PA10/SPI2_MOSI/USART1_RX/TIM1_CH3/TIM17_BKIN/I2C1_SDA/UCPD1_DBCC2, 22 PA11[PA9](4)/SPI1_MISO/I2S1_MCK/USART1_CTS/TIM1_CH4/TIM1_BKIN2/I2C2_SCL/COMP1_OUT, 23 PA12[PA10](4)/SPI1_MOSI/I2S1_SD/USART1_RTS_DE_CK/TIM1_ETR/I2S_CKIN/I2C2_SDA/COMP2_OUT, 24 PA13/SWDIO/IR_OUT, 25 PA14/BOOT0/SWCLK/USART2_TX, 26 PA15/SPI1_NSS/I2S1_WS/USART2_RX/TIM2_CH1_ETR/USART4_RTS_DE_CK/USART3_RTS_DE_CK, 27 PB3/SPI1_SCK/I2S1_CK/TIM1_CH2/TIM2_CH2/USART1_RTS_DE_CK/COMP2_INM, 28 PB4/SPI1_MISO/I2S1_MCK/TIM3_CH1/USART1_CTS/TIM17_BKIN/COMP2_INP, 29 PB5/SPI1_MOSI/I2S1_SD/TIM3_CH2/TIM16_BKIN/LPTIM1_IN1/I2C1_SMBA/COMP2_OUT/WKUP6, 30 PB6/USART1_TX/TIM1_CH3/TIM16_CH1N/SPI2_MISO/LPTIM1_ETR/I2C1_SCL/COMP2_INP, 31 PB7/USART1_RX/SPI2_MOSI/TIM17_CH1N/USART4_CTS/LPTIM1_IN2/I2C1_SDA/COMP2_INM/PVD_IN, 32 PB8/CEC/SPI2_SCK/TIM16_CH1/USART3_TX/TIM15_BKIN/I2C1_SCL


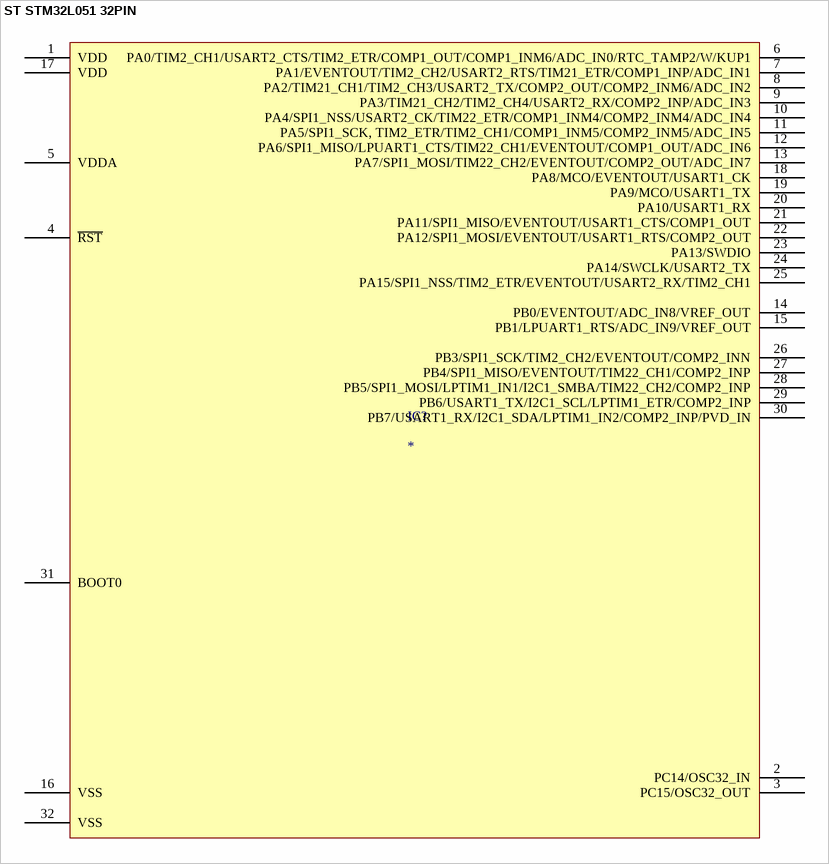
[diagram p547: symbol ST STM32L051 32PIN]